# Altium schematic symbol library SamacSys.SchLib: 1281 symbols (part 10 of 13)
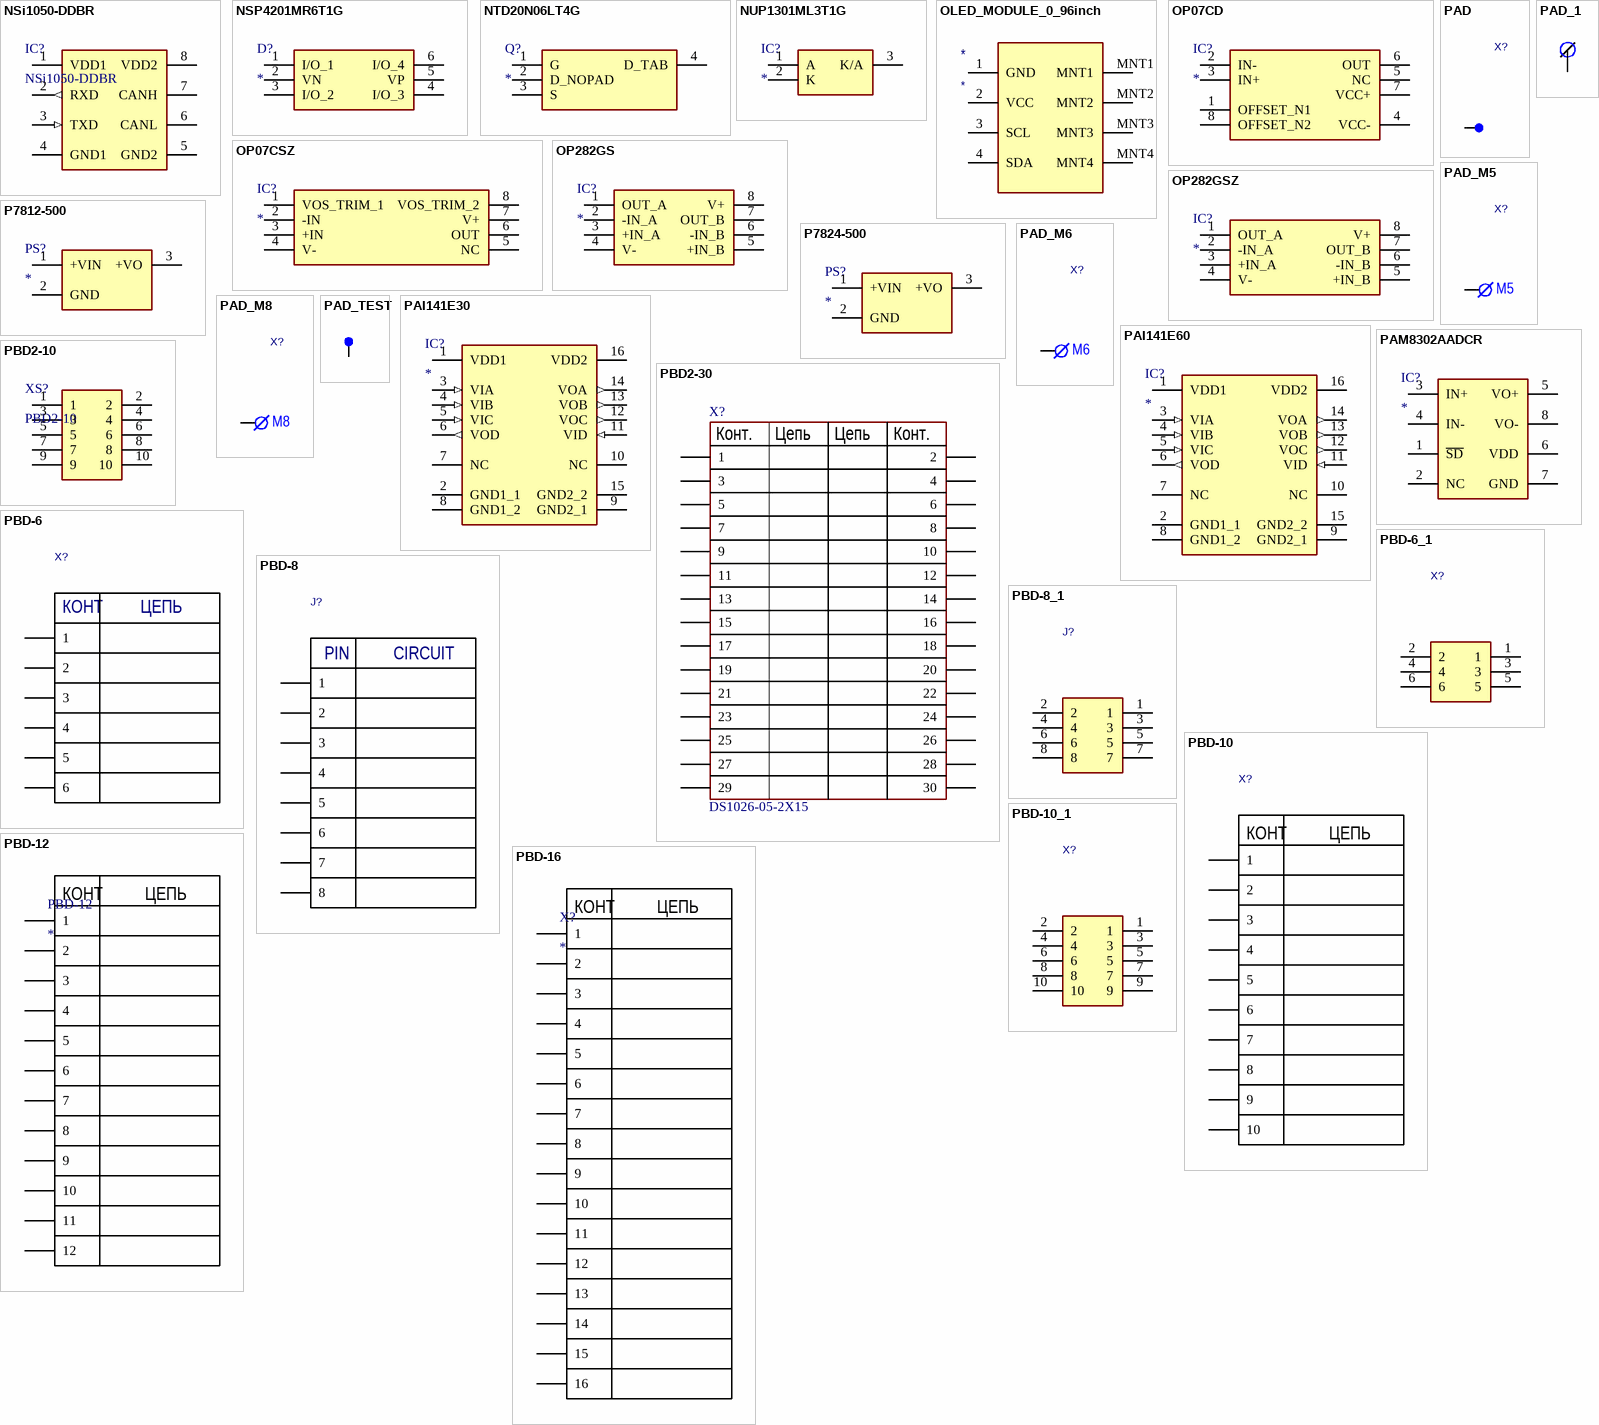
[diagram p56: symbols NSi1050-DDBR to PBD-16]

## PBD-6
designator X?  (value not drawn)
Connector; Manufacturer: Connfly; Part Number1: DS-1023 - 2x3; System: Connector; Part Number: PBD-6
footprint PBD-6
pins: 1, 2, 3, 4, 5, 6
text: КОНТ; ЦЕПЬ

## PBD-6_1
designator X?, comment PBD-6  (value not drawn)
Connector; Manufacturer: Connfly; Part Number1: DS-1023 - 2x3; System: Connector; Part Number: PBD-6
footprint PBD-6
pins: 1, 2, 3, 4, 5, 6

## PBD-8
designator J?  (value not drawn)
Connector; Manufacturer: Connfly; Part Number1: DS-1023-2x4; Part Number: PBD-8; System: Connector
footprint PBD-8 (Footprint not found)
footprint PBD-8_SIM800
pins: 1, 2, 3, 4, 5, 6, 7, 8
text: PIN; CIRCUIT

## PBD-8_1
designator J?, comment PBD-8  (value not drawn)
Connector; Manufacturer: Connfly; Part Number1: DS-1023-2x4; Part Number: PBD-8; System: Connector
footprint PBD-8
pins: 1, 2, 3, 4, 5, 6, 7, 8

## PBD-10
designator X?  (value not drawn)
Connector; Manufacturer: Connfly; Part Number1: DS-1023-2x5; Part Number: PBD-10; System: Connector
footprint PBD-10 (Footprint not found)
pins: 1, 2, 3, 4, 5, 6, 7, 8, 9, 10
text: КОНТ; ЦЕПЬ

## PBD-10_1
designator X?, comment PBD-10  (value not drawn)
Connector; Manufacturer: Connfly; Part Number1: DS-1023-2x5; Part Number: PBD-10; System: Connector
footprint PBD-10 (Footprint not found)
pins: 1, 2, 3, 4, 5, 6, 7, 8, 9, 10

## PBD-12
designator PBD-12
Connector; Manufacturer: Connfly; Part Number1: DS1023-2x6; Part Number: PBD-16; Height: 8.5mm; System: Connector
footprint PBD-12
pins: 1, 2, 3, 4, 5, 6, 7, 8, 9, 10, 11, 12
text: КОНТ; ЦЕПЬ

## PBD-16
designator X?
Connector; Manufacturer: Connfly; Part Number1: DS1023-2x8; Part Number: PBD-16; Height: 8.5mm; System: Connector
footprint RHDR16W60P254_2X8_2082X500X850P
pins: 1, 2, 3, 4, 5, 6, 7, 8, 9, 10, 11, 12, 13, 14, 15, 16
text: КОНТ; ЦЕПЬ

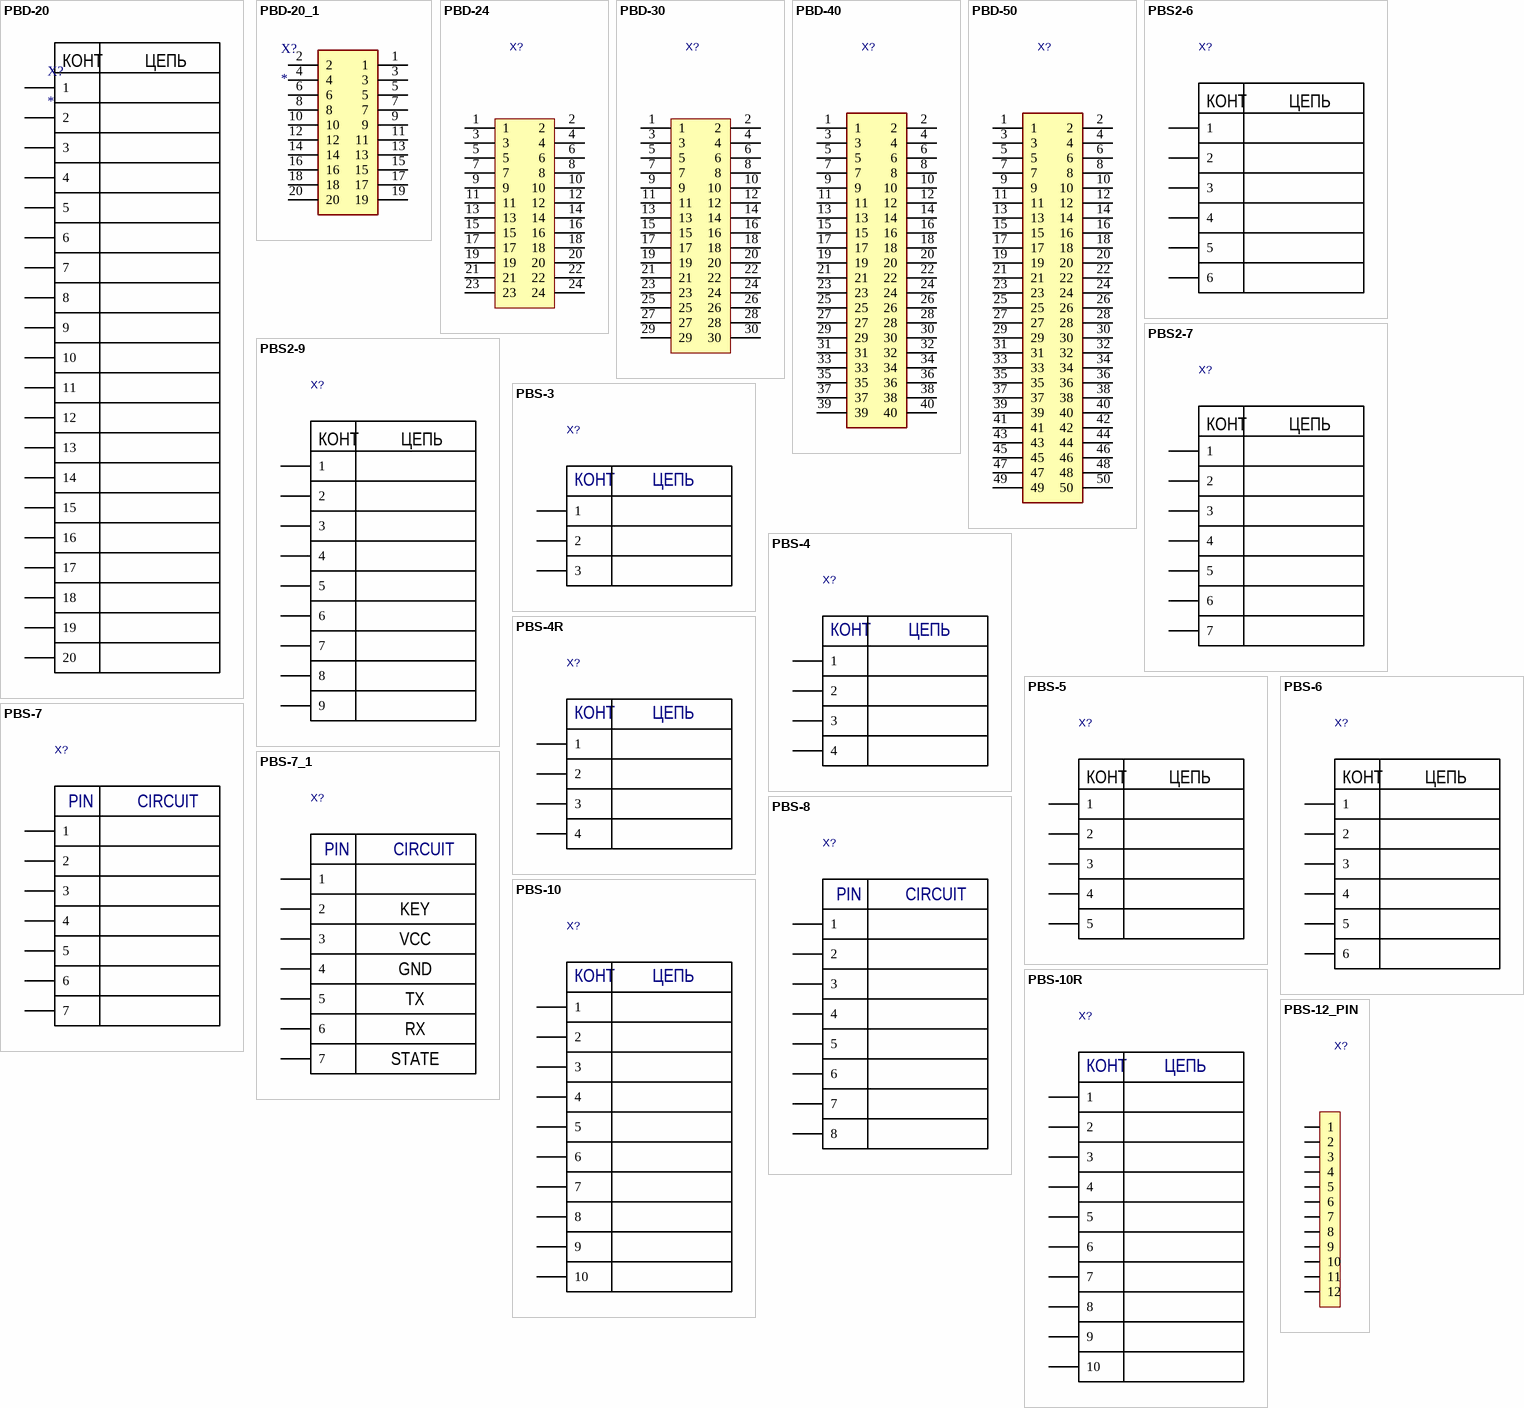
[diagram p31: symbols PBD-20 to PBS-12_PIN]

## PBD-20
designator X?
Connector; Manufacturer: Connfly; Part Number: PBD-20; Part Number1: DS1023-2*10; Height: 8.5mm; System: Connector
footprint PBD-20
pins: 1, 2, 3, 4, 5, 6, 7, 8, 9, 10, 11, 12, 13, 14, 15, 16, 17, 18, 19, 20
text: КОНТ; ЦЕПЬ

## PBD-20_1
designator X?
Connector; Manufacturer: Connfly; Part Number: PBD-20; Part Number1: DS1023-2*10; Height: 8.5mm; System: Connector
footprint PBD-20
pins: 1, 2, 3, 4, 5, 6, 7, 8, 9, 10, 11, 12, 13, 14, 15, 16, 17, 18, 19, 20

## PBD-24
designator X?  (value not drawn)
Connector; Manufacturer: Connfly; Part Number: PBD-30; Part Number1: DS-1023-2x12; System: Connector
footprint PBD-24 (Footprint not found)
pins: 1, 2, 3, 4, 5, 6, 7, 8, 9, 10, 11, 12, 13, 14, 15, 16, 17, 18, 19, 20, 21, 22, 23, 24

## PBD-30
designator X?  (value not drawn)
Connector; Manufacturer: Connfly; Part Number1: DS-1023-2x15; System: Connector; Part Number: PBD-30
footprint PBD-30
pins: 1, 2, 3, 4, 5, 6, 7, 8, 9, 10, 11, 12, 13, 14, 15, 16, 17, 18, 19, 20, 21, 22, 23, 24, 25, 26, 27, 28, 29, 30

## PBD-40
designator X?  (value not drawn)
Connector; Manufacturer: Connfly; Part Number1: DS-1023-2x20; System: Connector; Part Number: PBD-40
footprint PBD-40 (Footprint not found)
pins: 1, 2, 3, 4, 5, 6, 7, 8, 9, 10, 11, 12, 13, 14, 15, 16, 17, 18, 19, 20, 21, 22, 23, 24, 25, 26, 27, 28, 29, 30, 31, 32, 33, 34, 35, 36, 37, 38, 39, 40

## PBD-50
designator X?  (value not drawn)
Connector; Manufacturer: Connfly; Part Number: PBD-40; Part Number1: DS-1023-2x20; System: Connector
footprint PBD-50 (Footprint not found)
pins: 1, 2, 3, 4, 5, 6, 7, 8, 9, 10, 11, 12, 13, 14, 15, 16, 17, 18, 19, 20, 21, 22, 23, 24, 25, 26, 27, 28, 29, 30, 31, 32, 33, 34, 35, 36, 37, 38, 39, 40, 41, 42, 43, 44, 45, 46, 47, 48, 49, 50

## PBS2-6
designator X?  (value not drawn)
Connector, Header, Pitch 2mm, H=4.3mm; Manufacturer: Connfly; Part Number1: DS-1026-01x6; Part Number: PBS2-6; System: Connector
footprint PBS2-6
pins: 1, 2, 3, 4, 5, 6
text: КОНТ; ЦЕПЬ

## PBS2-7
designator X?  (value not drawn)
Connector, Header, Pitch 2mm, H=4.3mm; Manufacturer: Connfly; Part Number1: DS-1026-01x7; Part Number: PBS2-7; System: Connector
footprint PBS2-7 (Footprint not found)
pins: 1, 2, 3, 4, 5, 6, 7
text: КОНТ; ЦЕПЬ

## PBS2-9
designator X?  (value not drawn)
Connector, Header, Pitch 2mm, H=4.3mm; Manufacturer: Connfly; Part Number1: DS-1026-01x9; Part Number: PBS2-9; System: Connector
footprint PBS2-9 (Footprint not found)
pins: 1, 2, 3, 4, 5, 6, 7, 8, 9
text: КОНТ; ЦЕПЬ

## PBS-3
designator X?  (value not drawn)
Connector; Manufacturer: Connfly; Part Number1: DS-1023-1x3; System: Connector; Part Number: PBS-3
footprint PBS-3 (Footprint not found)
pins: 1, 2, 3
text: КОНТ; ЦЕПЬ

## PBS-4
designator X?  (value not drawn)
Connector; Manufacturer: Connfly; Part Number1: DS-1023-1x4; System: Connector; Part Number: PBS-4
footprint PBS-4
pins: 1, 2, 3, 4
text: КОНТ; ЦЕПЬ

## PBS-4R
designator X?  (value not drawn)
Connector; Manufacturer: Connfly; Part Number: PBS-4; Part Number1: DS-1023-1x4; System: Connector
footprint PBS-4R
pins: 1, 2, 3, 4
text: КОНТ; ЦЕПЬ

## PBS-5
designator X?  (value not drawn)
Connector; Manufacturer: Connfly; Part Number: PBD-5; Part Number1: DS-1023-1x5; System: Connector
footprint PBS-5
pins: 1, 2, 3, 4, 5
text: КОНТ; ЦЕПЬ

## PBS-6
designator X?  (value not drawn)
Connector; Manufacturer: Connfly; Part Number: PBD-6; Part Number1: DS-1023-1x6; System: Connector
footprint PBS-6
pins: 1, 2, 3, 4, 5, 6
text: КОНТ; ЦЕПЬ

## PBS-7
designator X?  (value not drawn)
Connector; Manufacturer: Connfly; Part Number: PBD-7; Part Number1: DS-1023-1x7; System: Connector
footprint PBS-7 (Footprint not found)
pins: 1, 2, 3, 4, 5, 6, 7
text: PIN; CIRCUIT

## PBS-7_1
designator X?, comment PBS-7  (value not drawn)
Connector; Manufacturer: Connfly; Part Number: PBS-7 + HC-06 BT Module; Part Number1: DS-1023-1x7; System: Connector
footprint PBS-7+HC-06 Module
pins: 1, 2, 3, 4, 5, 6, 7
text: PIN; CIRCUIT; KEY; VCC; GND; TX; RX; STATE

## PBS-8
designator X?  (value not drawn)
Connector; Manufacturer: Connfly; Part Number: PBD-8; Part Number1: DS-1023-1x8; System: Connector
footprint PBS-8
pins: 1, 2, 3, 4, 5, 6, 7, 8
text: PIN; CIRCUIT

## PBS-10
designator X?  (value not drawn)
Connector; Manufacturer: Connfly; Part Number1: DS-1023-1x10; System: Connector; Part Number: PBS-10
footprint PBS-10
footprint PBS-10_MPU9250
pins: 1, 2, 3, 4, 5, 6, 7, 8, 9, 10
text: КОНТ; ЦЕПЬ

## PBS-10R
designator X?  (value not drawn)
Connector; Manufacturer: Connfly; Part Number1: DS-1024-1x10R; System: Connector; Part Number: PBS-10R
footprint PBS-10R
pins: 1, 2, 3, 4, 5, 6, 7, 8, 9, 10
text: КОНТ; ЦЕПЬ

## PBS-12_PIN
designator X?, comment PBS-12  (value not drawn)
Connector; Manufacturer: Connfly; Part Number1: DS-1023-1x12; System: Connector; Part Number: PBS-12
footprint PBS-12 (Footprint not found)
pins: 1, 2, 3, 4, 5, 6, 7, 8, 9, 10, 11, 12

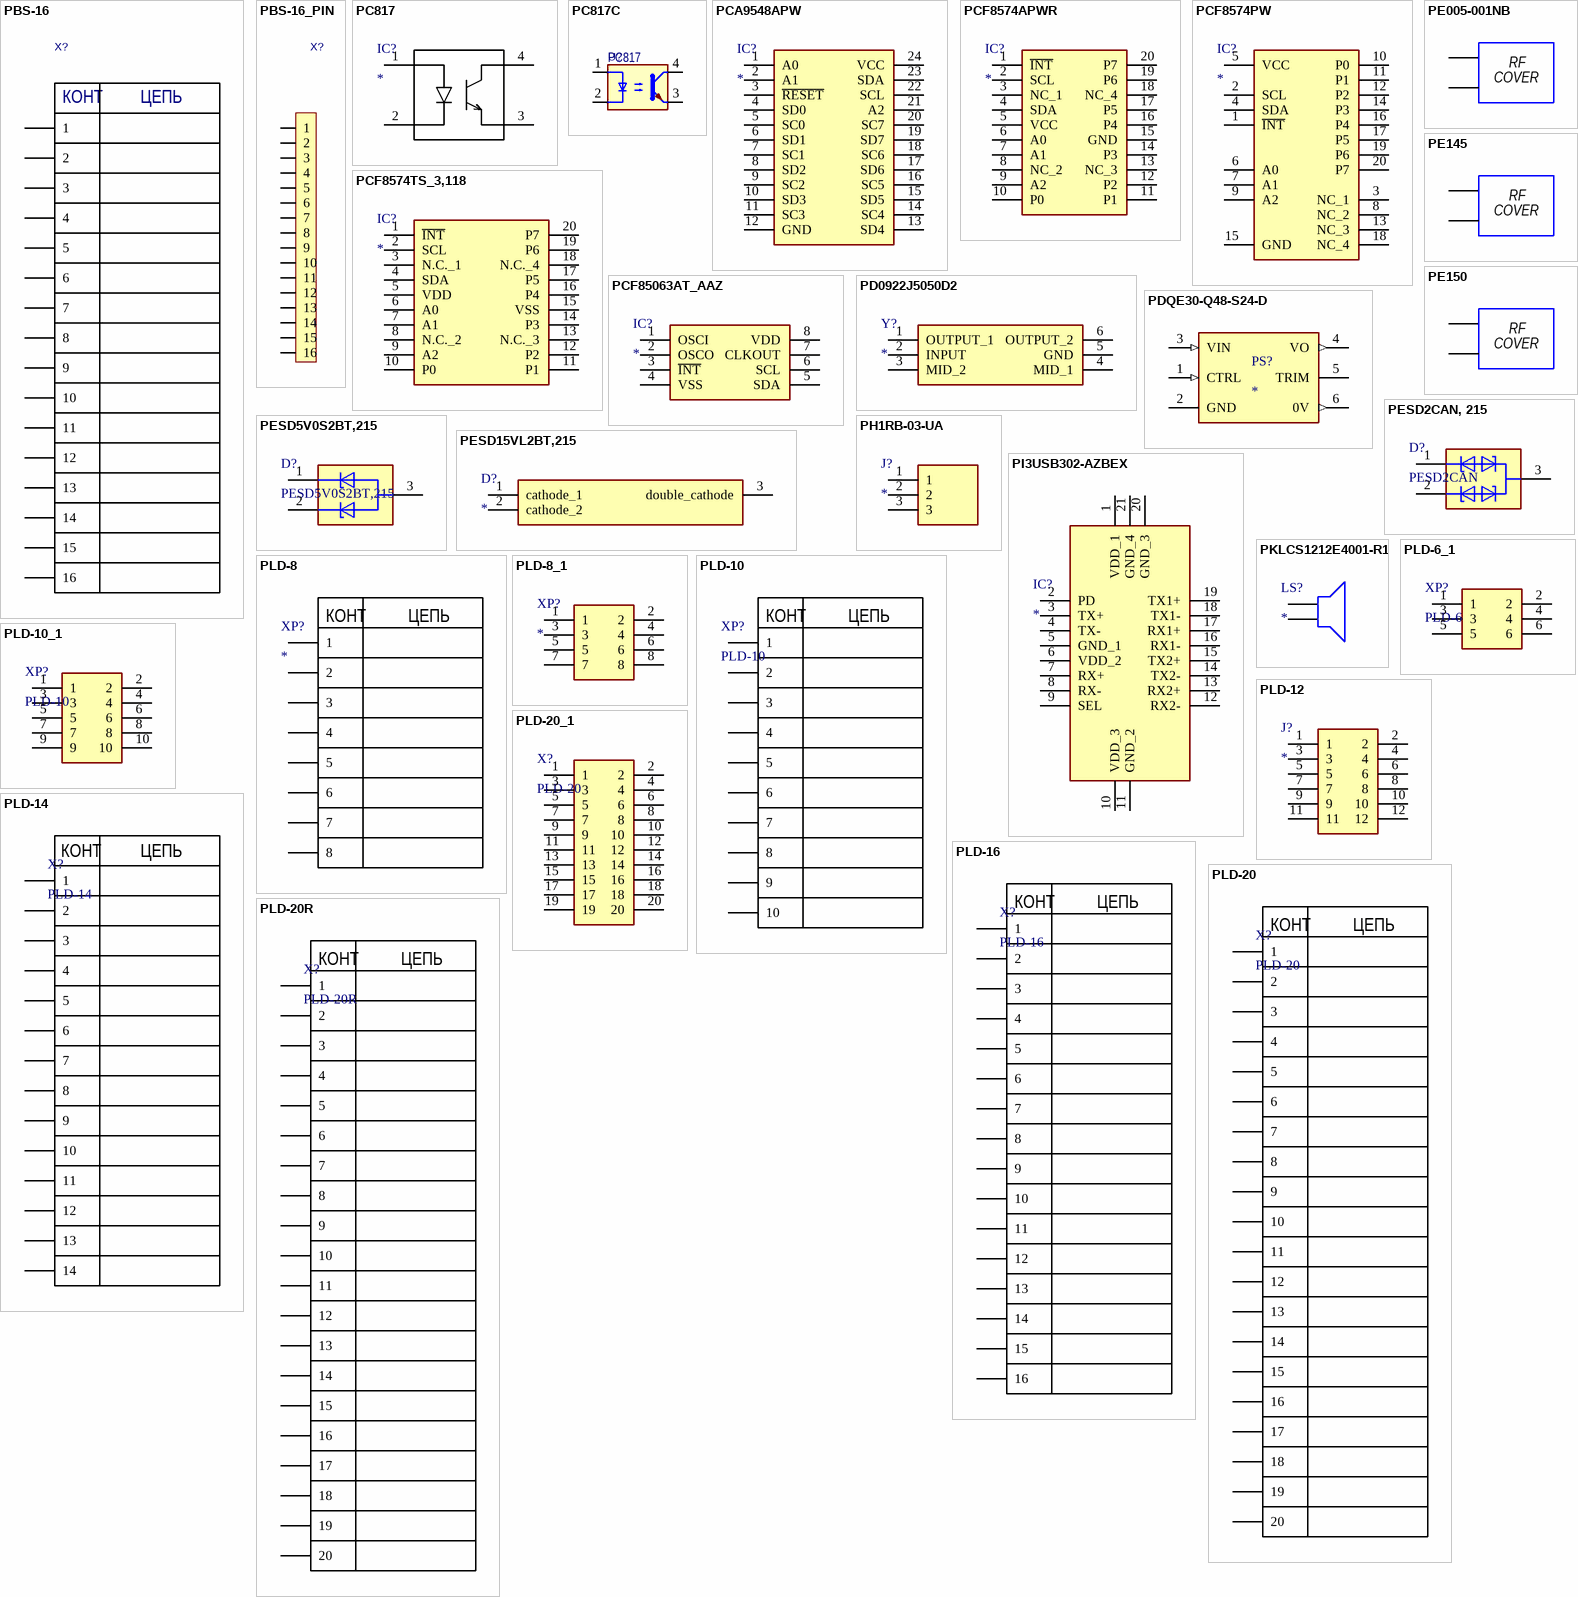
[diagram p32: symbols PBS-16 to PLD-20R]

## PBS-16
designator X?  (value not drawn)
Connector; Manufacturer: Connfly; Part Number1: DS-1023-1x16; System: Connector; Part Number: PBS-16
footprint PBS-16
pins: 1, 2, 3, 4, 5, 6, 7, 8, 9, 10, 11, 12, 13, 14, 15, 16
text: КОНТ; ЦЕПЬ

## PBS-16_PIN
designator X?, comment PBS-16  (value not drawn)
Connector; Manufacturer: Connfly; Part Number1: DS-1023-1x16; System: Connector; Part Number: PBS-16
footprint PBS-16
pins: 1, 2, 3, 4, 5, 6, 7, 8, 9, 10, 11, 12, 13, 14, 15, 16

## PC817
designator IC?
Integrated Circuit; Manufacturer_Name: Sharp Microelectronics; Manufacturer_Part_Number: PC817X2NSZ0F; Datasheet Link: https://datasheet.datasheetarchive.com/originals/distributors/Datasheets_SAMA/458e45842a103a05998fcebbd6f7366e.pdf; Height: 4mm; Mouser Part Number: N/A; Mouser Price/Stock: https://www.mouser.co.uk/ProductDetail/Sharp-Microelectronics/PC817X2NSZ0F?qs=6kT3pPPHxnU7uYWM8Yy85A%3D%3D
footprint DIP762W60P254L458H400Q4N
pins: 1 ANODE, 2 CATHODE, 3 EMITTER, 4 COLLECTOR

## PC817C
designator U?, comment value PC817  (hidden comment: PC817 (SMD-4))
OPTOISOLATOR 5KV 1CH TRANS 4-SMD
footprint SOP254P1016X460-4N
pins: 1, 2, 3, 4

## PCA9548APW
designator IC?
Integrated Circuit; Manufacturer_Name: Texas Instruments; Manufacturer_Part_Number: PCA9548APW; Datasheet Link: http://www.ti.com/lit/ds/symlink/pca9548a.pdf; Height: 1.2mm; Mouser Part Number: 595-PCA9548APW; Mouser Price/Stock: https://www.mouser.co.uk/ProductDetail/Texas-Instruments/PCA9548APW?qs=iSMark9AYDUcRAvPZkZvig%3D%3D; Arrow Part Number: PCA9548APW; Arrow Price/Stock: https://www.arrow.com/en/products/pca9548apw/texas-instruments?region=nac
footprint SOP65P640X120-24N
pins: 1 A0, 2 A1, 3 ~{RESET}, 4 SD0, 5 SC0, 6 SD1, 7 SC1, 8 SD2, 9 SC2, 10 SD3, 11 SC3, 12 GND, 13 SD4, 14 SC4, 15 SD5, 16 SC5, 17 SD6, 18 SC6, 19 SD7, 20 SC7, 21 A2, 22 SCL, 23 SDA, 24 VCC

## PCF8574APWR
designator IC?
Integrated Circuit; Manufacturer_Name: Texas Instruments; Manufacturer_Part_Number: PCF8574APWR; Datasheet Link: http://www.ti.com/lit/ds/symlink/pcf8574a.pdf; Height: 1.2mm; Mouser Part Number: 595-PCF8574APWR; Mouser Price/Stock: https://www.mouser.co.uk/ProductDetail/Texas-Instruments/PCF8574APWR?qs=bkMXpVdiF42gbWVI8U3xeA%3D%3D; Arrow Part Number: PCF8574APWR; Arrow Price/Stock: https://www.arrow.com/en/products/pcf8574apwr/texas-instruments?utm_currency=USD&region=nac
footprint SOP65P640X120-20N
pins: 1 ~{INT}, 2 SCL, 3 NC_1, 4 SDA, 5 VCC, 6 A0, 7 A1, 8 NC_2, 9 A2, 10 P0, 11 P1, 12 P2, 13 NC_3, 14 P3, 15 GND, 16 P4, 17 P5, 18 NC_4, 19 P6, 20 P7

## PCF8574PW
designator IC?
Integrated Circuit; Manufacturer_Name: Texas Instruments; Manufacturer_Part_Number: PCF8574PW; Datasheet Link: https://www.ti.com/lit/ds/symlink/pcf8574.pdf?ts=1599897350462&ref_url=https%253A%252F%252Fwww.ti.com%252Fstore%252Fti%252Fen%252Fp%252Fproduct%252F%253Fp%253DPCF8574PW%2526keyMatch%253DPCF8574PW%2526tisearch%253DSearch-EN-everything%2526usecase%253DOPN; Height: 1.2mm; Mouser Part Number: 595-PCF8574PW; Mouser Price/Stock: https://www.mouser.co.uk/ProductDetail/Texas-Instruments/PCF8574PW?qs=wgAEGBTxy7nGas5ljMOEVg%3D%3D; Arrow Part Number: PCF8574PW; Arrow Price/Stock: https://www.arrow.com/en/products/pcf8574pw/texas-instruments?region=nac
footprint SOP65P640X120-20N
pins: 1 ~{INT}, 2 SCL, 3 NC_1, 4 SDA, 5 VCC, 6 A0, 7 A1, 8 NC_2, 9 A2, 10 P0, 11 P1, 12 P2, 13 NC_3, 14 P3, 15 GND, 16 P4, 17 P5, 18 NC_4, 19 P6, 20 P7

## PCF8574TS_3,118
designator IC?
Integrated Circuit; Manufacturer_Name: NXP; Manufacturer_Part_Number: PCF8574TS/3,118; Datasheet Link: http://www.nxp.com/docs/en/data-sheet/PCF8574_PCF8574A.pdf; Height: 1.5mm; Mouser Part Number: 771-PCF8574TDK-T; Mouser Price/Stock: https://www.mouser.co.uk/ProductDetail/NXP-Semiconductors/PCF8574TS-3118?qs=LOCUfHb8d9s6DQR34Mm8kg%3D%3D; Arrow Part Number: PCF8574TS/3,118; Arrow Price/Stock: https://www.arrow.com/en/products/pcf8574ts3118/nxp-semiconductors?region=nac
footprint SOP65P640X150-20N
pins: 1 ~{INT}, 2 SCL, 3 N.C._1, 4 SDA, 5 VDD, 6 A0, 7 A1, 8 N.C._2, 9 A2, 10 P0, 11 P1, 12 P2, 13 N.C._3, 14 P3, 15 VSS, 16 P4, 17 P5, 18 N.C._4, 19 P6, 20 P7

## PCF85063AT_AAZ
designator IC?
Integrated Circuit; Manufacturer_Name: NXP; Manufacturer_Part_Number: PCF85063AT/AAZ; Datasheet Link: http://www.nxp.com/docs/en/data-sheet/PCF85063A.pdf; Height: 1.75mm; Mouser Part Number: 771-PCF85063AT/AAZ; Mouser Price/Stock: https://www.mouser.co.uk/ProductDetail/NXP-Semiconductors/PCF85063AT-AAZ?qs=sV%252BQJnSpgu9E5WpV9lmUdg%3D%3D; Arrow Part Number: PCF85063AT/AAZ; Arrow Price/Stock: https://www.arrow.com/en/products/pcf85063ataaz/nxp-semiconductors?region=nac
footprint SOIC127P600X175-8N
pins: 1 OSCI, 2 OSCO, 3 ~{INT}, 4 VSS, 5 SDA, 6 SCL, 7 CLKOUT, 8 VDD

## PD0922J5050D2
designator Y?
Crystal or Oscillator; Manufacturer_Name: XINGER; Manufacturer_Part_Number: PD0922J5050D2; Datasheet Link: https://www.kynix.com/uploadfiles/pdf8798/PD0922J5050D2.pdf; Height: 0.93mm
footprint PD0922J5050D2
pins: 1 OUTPUT_1, 2 INPUT, 3 MID_2, 4 MID_1, 5 GND, 6 OUTPUT_2

## PDQE30-Q48-S24-D
designator PS?
30 W, 4:1 Input Range, Single Regulated Output, DIP, 1500 Vdc Isolation, Dc-Dc Converter; MP: PDQE30-Q48-S24-D; MF: CUI Inc.; Value: *; Availability: Unavailable; Package: DIP-6; Check_prices: https://www.snapeda.com/parts/PDQE30-Q48-S24-D/CUI/view-part/?ref=eda; SnapEDA_Link: https://www.snapeda.com/parts/PDQE30-Q48-S24-D/CUI/view-part/?ref=snap; Price: None
footprint PDQE30
pins: 1 CTRL (in), 2 GND (power), 3 VIN (in), 4 VO (out), 5 TRIM, 6 0V (out)

## PE005-001NB
designator XT?  (value not drawn)
RF COVER, PE005-001NB; Value: *
footprint PE005-001 (Footprint not found)
pins: 1, 2
text: RF; COVER

## PE145
designator XT?, comment PE145 RF COVER  (value not drawn)
RF COVER, PE145; Value: *
footprint PE145 (Footprint not found)
pins: 1, 2
text: RF; COVER

## PE150
designator XT?, comment PE150 RF COVER  (value not drawn)
RF COVER, PE150; Value: *
footprint PE150 (Footprint not found)
pins: 1, 2
text: RF; COVER

## PESD2CAN, 215
designator D?, comment PESD2CAN
Diode ESD (Uni-directional); Manufacturer_Name: Nexperia; Manufacturer_Part_Number: PESD2CAN24T-QR; Datasheet Link: https://assets.nexperia.com/documents/data-sheet/PESD2CAN.pdf; Height: 1.1mm
footprint SOT95P230X110-3N
pins: 1 CAT_1, 2 CAT_2, 3 COM

## PESD5V0S2BT,215
designator D?
DIODE TVS 5VWM 14VC SOT23; Manufacturer_Name: Nexperia; Datasheet Link: https://assets.nexperia.com/documents/data-sheet/PESD5V0S2BT.pdf; Height: 1.1mm; Manufacturer_Part_Number: PESD5V0S2BT,215; Mouser Part Number: 771-PESD5V0S2BT-T/R; Mouser Price/Stock: https://www.mouser.co.uk/ProductDetail/Nexperia/PESD5V0S2BT215?qs=LOCUfHb8d9vg1bGYYJyeQQ%3D%3D; Arrow Part Number: PESD5V0S2BT,215; Arrow Price/Stock: https://www.arrow.com/en/products/pesd5v0s2bt215/nexperia?region=nac
footprint SOT95P230X110-3N
pins: 1 CAT_1, 2 CAT_2, 3 COM

## PESD15VL2BT,215
designator D?
Diode; Manufacturer_Name: Nexperia; Manufacturer_Part_Number: PESD15VL2BT,215; Datasheet Link: https://assets.nexperia.com/documents/data-sheet/PESDXL2BT_SER.pdf; Height: 1.1mm; Mouser Part Number: 771-PESD15VL2BT-T/R; Mouser Price/Stock: https://www.mouser.co.uk/ProductDetail/Nexperia/PESD15VL2BT215?qs=LOCUfHb8d9vyDy2ag0hbbA%3D%3D; Arrow Part Number: PESD15VL2BT,215; Arrow Price/Stock: https://www.arrow.com/en/products/pesd15vl2bt215/nexperia?region=nac
footprint SOT95P230X110-3N
pins: 1 cathode_1, 2 cathode_2, 3 double_cathode

## PH1RB-03-UA
designator J?
Connector; Manufacturer_Name: Adam Tech; Manufacturer_Part_Number: PH1RB-03-UA; Datasheet Link: https://app.adam-tech.com/products/download/data_sheet/201281/ph1rb-xx-ua-data-sheet.pdf; Height: 3.008mm; Mouser Part Number: 737-PH1RB-03-UA; Mouser Price/Stock: https://www.mouser.co.uk/ProductDetail/Adam-Tech/PH1RB-03-UA?qs=HoCaDK9Nz5dMpkzb4k6qpA%3D%3D; Arrow Part Number: PH1RB-03-UA; Arrow Price/Stock: https://www.arrow.com/en/products/ph1rb-03-ua/adam-tech?utm_currency=USD&region=nac
footprint HDRRA3W64P0X254_1X3_762X250X301P
pins: 1, 2, 3

## PI3USB302-AZBEX
designator IC?
Integrated Circuit; Manufacturer_Name: Diodes Incorporated; Manufacturer_Part_Number: PI3USB302-AZBEX; Datasheet Link: https://www.diodes.com//assets/Datasheets/PI3USB302-A.pdf; Height: 1mm; Mouser Part Number: 729-PI3USB302-AZBEX; Mouser Price/Stock: https://www.mouser.co.uk/ProductDetail/Diodes-Incorporated/PI3USB302-AZBEX?qs=RX7uCqH05oaFctr44Vdm4w%3D%3D; Arrow Part Number: PI3USB302-AZBEX; Arrow Price/Stock: https://www.arrow.com/en/products/pi3usb302-azbex/diodes-incorporated?utm_currency=USD&region=nac
footprint PI3USB302AZBEX
pins: 1 VDD_1, 2 PD, 3 TX+, 4 TX-, 5 GND_1, 6 VDD_2, 7 RX+, 8 RX-, 9 SEL, 10 VDD_3, 11 GND_2, 12 RX2-, 13 RX2+, 14 TX2-, 15 TX2+, 16 RX1-, 17 RX1+, 18 TX1-, 19 TX1+, 20 GND_3, 21 GND_4

## PKLCS1212E4001-R1
designator LS?
Loudspeaker or Buzzer; Manufacturer_Name: Murata Electronics; Manufacturer_Part_Number: PKLCS1212E4001-R1; Datasheet Link: https://componentsearchengine.com/Datasheets/2/PKLCS1212E4001-R1.pdf; Mouser Part Number: 81-PKLCS1212E4001; Mouser Price/Stock: https://www.mouser.co.uk/ProductDetail/Murata-Electronics/PKLCS1212E4001-R1?qs=obr%252BoSDNKM%252Btd7GB2KoUgw%3D%3D; Arrow Part Number: PKLCS1212E4001-R1; Arrow Price/Stock: https://www.arrow.com/en/products/pklcs1212e4001-r1/murata-manufacturing?region=europe
footprint PKLCS1212E4001
pins: 1, 2

## PLD-6_1
designator XP?, comment PLD-6
Connector
footprint PLD-6
pins: 1, 2, 3, 4, 5, 6

## PLD-8
designator XP?
Connector; Manufacturer_Name: JST (JAPAN SOLDERLESS TERMINALS); Manufacturer_Part_Number: S4B-PH-SM4-TB(LF)(SN); Datasheet Link: http://uk.rs-online.com/web/p/products/6881366; Arrow Part Number: S4B-PH-SM4-TB(LF)(SN); Arrow Price/Stock: https://www.arrow.com/en/products/s4b-ph-sm4-tb-lf-sn/jst-manufacturing; System: Connector
footprint PLD-8
pins: 1, 2, 3, 4, 5, 6, 7, 8
text: КОНТ; ЦЕПЬ

## PLD-8_1
designator XP?
Connector; Manufacturer_Name: JST (JAPAN SOLDERLESS TERMINALS); Manufacturer_Part_Number: S4B-PH-SM4-TB(LF)(SN); Datasheet Link: http://uk.rs-online.com/web/p/products/6881366; Arrow Part Number: S4B-PH-SM4-TB(LF)(SN); Arrow Price/Stock: https://www.arrow.com/en/products/s4b-ph-sm4-tb-lf-sn/jst-manufacturing; System: Connector
footprint PLD-8
pins: 1, 2, 3, 4, 5, 6, 7, 8

## PLD-10
designator XP?
Connector; Manufacturer_Name: JST (JAPAN SOLDERLESS TERMINALS); Datasheet Link: http://uk.rs-online.com/web/p/products/6881366; Manufacturer_Part_Number: PLD-10; Arrow Part Number: S4B-PH-SM4-TB(LF)(SN); Arrow Price/Stock: https://www.arrow.com/en/products/s4b-ph-sm4-tb-lf-sn/jst-manufacturing; System: Connector
footprint PLD-10
pins: 1, 2, 3, 4, 5, 6, 7, 8, 9, 10
text: КОНТ; ЦЕПЬ

## PLD-10_1
designator XP?, comment PLD-10
Connector; Manufacturer_Name: JST (JAPAN SOLDERLESS TERMINALS); Datasheet Link: http://uk.rs-online.com/web/p/products/6881366; Manufacturer_Part_Number: PLD-10; Arrow Part Number: S4B-PH-SM4-TB(LF)(SN); Arrow Price/Stock: https://www.arrow.com/en/products/s4b-ph-sm4-tb-lf-sn/jst-manufacturing; System: Connector
footprint PLD-10
pins: 1, 2, 3, 4, 5, 6, 7, 8, 9, 10

## PLD-12
designator J?
Connector; Manufacturer_Name: JST (JAPAN SOLDERLESS TERMINALS); Manufacturer_Part_Number: S4B-PH-SM4-TB(LF)(SN); Datasheet Link: http://uk.rs-online.com/web/p/products/6881366; Arrow Part Number: S4B-PH-SM4-TB(LF)(SN); Arrow Price/Stock: https://www.arrow.com/en/products/s4b-ph-sm4-tb-lf-sn/jst-manufacturing
footprint PLD-12
pins: 1, 2, 3, 4, 5, 6, 7, 8, 9, 10, 11, 12

## PLD-14
designator X?
Connector; Manufacturer: Connfly; Part Number1: DS1021-2x7; Height: 8.5mm; System: Connector; Part Number: PLD-14
footprint PLD-14 (Footprint not found)
pins: 1, 2, 3, 4, 5, 6, 7, 8, 9, 10, 11, 12, 13, 14
text: КОНТ; ЦЕПЬ

## PLD-16
designator X?
Connector; Manufacturer: Connfly; Part Number1: DS1021-2*8; Height: 8.5mm; Part Number: PLD-16; System: Connector
footprint PLD-16
pins: 1, 2, 3, 4, 5, 6, 7, 8, 9, 10, 11, 12, 13, 14, 15, 16
text: КОНТ; ЦЕПЬ

## PLD-20
designator X?
Connector; Manufacturer: Connfly; Part Number1: DS1021-2*10; Height: 8.5mm; Part Number: PLD-20; System: Connector
footprint PLD-20
pins: 1, 2, 3, 4, 5, 6, 7, 8, 9, 10, 11, 12, 13, 14, 15, 16, 17, 18, 19, 20
text: КОНТ; ЦЕПЬ

## PLD-20_1
designator X?, comment PLD-20
Connector; Manufacturer: Connfly; Part Number1: DS1021-2*10; Height: 8.5mm; Part Number: PLD-20; System: Connector
footprint PLD-20
pins: 1, 2, 3, 4, 5, 6, 7, 8, 9, 10, 11, 12, 13, 14, 15, 16, 17, 18, 19, 20

## PLD-20R
designator X?
Connector; Manufacturer: Connfly; Part Number1: DS1022-2X10; Height: 8.5mm; Part Number: PLD-20R; System: Connector
footprint PLD-20R
pins: 1, 2, 3, 4, 5, 6, 7, 8, 9, 10, 11, 12, 13, 14, 15, 16, 17, 18, 19, 20
text: КОНТ; ЦЕПЬ

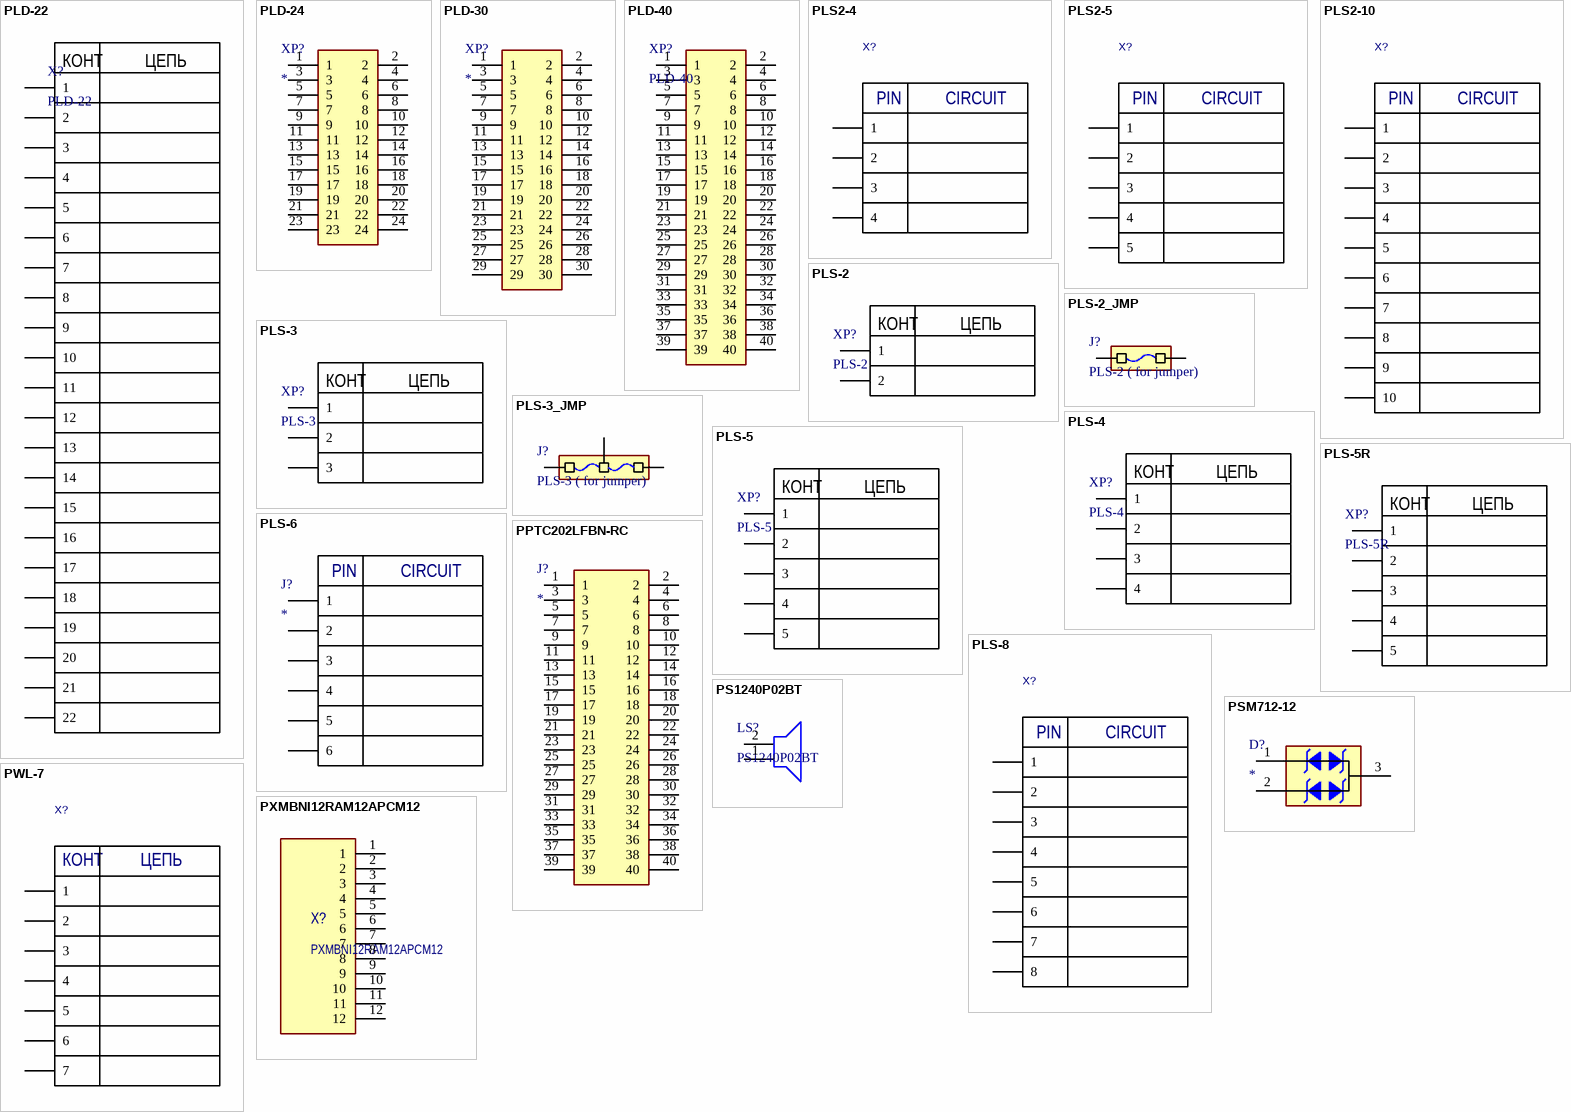
[diagram p33: symbols PLD-22 to PXMBNI12RAM12APCM12]

## PLD-22
designator X?
Connector; Manufacturer: Connfly; Part Number1: DS1021-2*11; Height: 8.5mm; Part Number: PLD-22; System: Connector
footprint PLD-22 (Footprint not found)
pins: 1, 2, 3, 4, 5, 6, 7, 8, 9, 10, 11, 12, 13, 14, 15, 16, 17, 18, 19, 20, 21, 22
text: КОНТ; ЦЕПЬ

## PLD-24
designator XP?
CONN HEADER VERT 24POS 2.54MM
footprint PLD-24
pins: 1, 2, 3, 4, 5, 6, 7, 8, 9, 10, 11, 12, 13, 14, 15, 16, 17, 18, 19, 20, 21, 22, 23, 24

## PLD-30
designator XP?
CONN HEADER VERT 30POS 2.54MM; Manufacturer_Name: JST (JAPAN SOLDERLESS TERMINALS); Manufacturer_Part_Number: S4B-PH-SM4-TB(LF)(SN); Datasheet Link: http://uk.rs-online.com/web/p/products/6881366; Arrow Part Number: S4B-PH-SM4-TB(LF)(SN); Arrow Price/Stock: https://www.arrow.com/en/products/s4b-ph-sm4-tb-lf-sn/jst-manufacturing
footprint PLD-30
pins: 1, 2, 3, 4, 5, 6, 7, 8, 9, 10, 11, 12, 13, 14, 15, 16, 17, 18, 19, 20, 21, 22, 23, 24, 25, 26, 27, 28, 29, 30

## PLD-40
designator XP?
CONN HEADER VERT 40POS 2.54MM; Manufacturer_Name: JST (JAPAN SOLDERLESS TERMINALS); Datasheet Link: http://uk.rs-online.com/web/p/products/6881366; Arrow Part Number: S4B-PH-SM4-TB(LF)(SN); Arrow Price/Stock: https://www.arrow.com/en/products/s4b-ph-sm4-tb-lf-sn/jst-manufacturing
footprint PLD-40
pins: 1, 2, 3, 4, 5, 6, 7, 8, 9, 10, 11, 12, 13, 14, 15, 16, 17, 18, 19, 20, 21, 22, 23, 24, 25, 26, 27, 28, 29, 30, 31, 32, 33, 34, 35, 36, 37, 38, 39, 40

## PLS2-4
designator X?  (value not drawn)
Connector; Manufacturer: Connfly; Part Number1: DS1025-01-1x4; Part Number: PLS2-4; System: Connector
footprint PLS2-4
pins: 1, 2, 3, 4
text: PIN; CIRCUIT

## PLS2-5
designator X?  (value not drawn)
Connector; Manufacturer: Connfly; Part Number: PLS2-4; Part Number1: DS1025-01-1x4; System: Connector
footprint PLS2-5
pins: 1, 2, 3, 4, 5
text: PIN; CIRCUIT

## PLS2-10
designator X?  (value not drawn)
Connector; Manufacturer: Connfly; Part Number1: DS1025-01-1x10; Part Number: PLS2-10; System: Connector
footprint PLS2-10
pins: 1, 2, 3, 4, 5, 6, 7, 8, 9, 10
text: PIN; CIRCUIT

## PLS-2
designator XP?
Connector; Manufacturer_Name: JST (JAPAN SOLDERLESS TERMINALS); Datasheet Link: http://uk.rs-online.com/web/p/products/6881366; Arrow Part Number: S4B-PH-SM4-TB(LF)(SN); Arrow Price/Stock: https://www.arrow.com/en/products/s4b-ph-sm4-tb-lf-sn/jst-manufacturing; System: Connector
footprint PLS-2 (Footprint not found)
pins: 1, 2
text: КОНТ; ЦЕПЬ

## PLS-2_JMP
designator J?, comment PLS-2 ( for jumper)
Jumper DS1021-1x2 + MJ-0-6; Manufacturer_Name: Connfly; Manufacturer_Part_Number: DS1021-1x2; Manufacturer_Part_Number_1: PLS-2
footprint PLS-2
pins: 1, 2

## PLS-3
designator XP?
Connector; Manufacturer_Name: JST (JAPAN SOLDERLESS TERMINALS); Datasheet Link: http://uk.rs-online.com/web/p/products/6881366; Arrow Part Number: S4B-PH-SM4-TB(LF)(SN); Arrow Price/Stock: https://www.arrow.com/en/products/s4b-ph-sm4-tb-lf-sn/jst-manufacturing; System: Connector
footprint PLS-3
pins: 1, 2, 3
text: КОНТ; ЦЕПЬ

## PLS-3_JMP
designator J?, comment PLS-3 ( for jumper)
Jumper DS1021-1x3+ MJ-0-6; Manufacturer_Name: Connfly; Manufacturer_Part_Number: DS1021-1x3; Manufacturer_Part_Number_1: PLS-3
footprint PLS-3
pins: 1, 2, 3

## PLS-4
designator XP?
Connector; Manufacturer_Name: JST (JAPAN SOLDERLESS TERMINALS); Datasheet Link: http://uk.rs-online.com/web/p/products/6881366; Arrow Part Number: S4B-PH-SM4-TB(LF)(SN); Arrow Price/Stock: https://www.arrow.com/en/products/s4b-ph-sm4-tb-lf-sn/jst-manufacturing; System: Connector
footprint PLS-4 (Footprint not found)
pins: 1, 2, 3, 4
text: КОНТ; ЦЕПЬ

## PLS-5
designator XP?
Connector; Manufacturer_Name: JST (JAPAN SOLDERLESS TERMINALS); Manufacturer_Part_Number: S4B-PH-SM4-TB(LF)(SN); Datasheet Link: http://uk.rs-online.com/web/p/products/6881366; Arrow Part Number: S4B-PH-SM4-TB(LF)(SN); Arrow Price/Stock: https://www.arrow.com/en/products/s4b-ph-sm4-tb-lf-sn/jst-manufacturing; System: Connector
footprint PLS-5
pins: 1, 2, 3, 4, 5
text: КОНТ; ЦЕПЬ

## PLS-5R
designator XP?
Connector; Manufacturer_Name: JST (JAPAN SOLDERLESS TERMINALS); Manufacturer_Part_Number: S4B-PH-SM4-TB(LF)(SN); Datasheet Link: http://uk.rs-online.com/web/p/products/6881366; Arrow Part Number: S4B-PH-SM4-TB(LF)(SN); Arrow Price/Stock: https://www.arrow.com/en/products/s4b-ph-sm4-tb-lf-sn/jst-manufacturing; System: Connector
footprint PLS-5R (Footprint not found)
pins: 1, 2, 3, 4, 5
text: КОНТ; ЦЕПЬ

## PLS-6
designator J?
Connector; Manufacturer_Name: JST (JAPAN SOLDERLESS TERMINALS); Manufacturer_Part_Number: S4B-PH-SM4-TB(LF)(SN); Datasheet Link: http://uk.rs-online.com/web/p/products/6881366; Arrow Part Number: S4B-PH-SM4-TB(LF)(SN); Arrow Price/Stock: https://www.arrow.com/en/products/s4b-ph-sm4-tb-lf-sn/jst-manufacturing
footprint PLS-6
pins: 1, 2, 3, 4, 5, 6
text: PIN; CIRCUIT

## PLS-8
designator X?  (value not drawn)
Connector; Manufacturer: Connfly; Part Number1: DS1021-1x8; Part Number: PLS-8; System: Connector
footprint PLS-8
pins: 1, 2, 3, 4, 5, 6, 7, 8
text: PIN; CIRCUIT

## PPTC202LFBN-RC
designator J?
Connector; Manufacturer_Name: Sullins; Manufacturer_Part_Number: PPTC202LFBN-RC; Datasheet Link: https://drawings-pdf.s3.amazonaws.com/10492.pdf; Height: 8.5mm
footprint SHDR40W80P254_2X20_5130X508X850P
pins: 1, 2, 3, 4, 5, 6, 7, 8, 9, 10, 11, 12, 13, 14, 15, 16, 17, 18, 19, 20, 21, 22, 23, 24, 25, 26, 27, 28, 29, 30, 31, 32, 33, 34, 35, 36, 37, 38, 39, 40

## PS1240P02BT
designator LS?
Loudspeaker or Buzzer; Manufacturer_Name: TDK; Datasheet Link: https://product.tdk.com/system/files/dam/doc/product/sw_piezo/sw_piezo/piezo-buzzer/catalog/piezoelectronic_buzzer_ps_en.pdf; Manufacturer_Part_Number: PS1240P02BT; Mouser Part Number: 810-PS1240P02BT; Mouser Price/Stock: https://www.mouser.co.uk/ProductDetail/TDK/PS1240P02BT?qs=d7g9p1yFhWaZXSY9MjKMkw%3D%3D; Arrow Part Number: PS1240P02BT; Arrow Price/Stock: https://www.arrow.com/en/products/ps1240p02bt/tdk?utm_currency=USD&region=nac
footprint PS1240P02BT
pins: 1, 2

## PSM712-12
designator D?
TVS Diode (Bi-directional); Manufacturer_Name: ProTek Devices; Manufacturer_Part_Number: PSM712-12; Datasheet Link: http://www.protekdevices.com/xyz/documents/datasheets/psm712.pdf; Height: 1.21mm
footprint PSM71212
pins: 1, 2, 3

## PWL-7
designator X?  (value not drawn)
Connector; Manufacturer: Connfly; Part Number1: DS1072-7-M; System: Connector; Part Number: PWL-7
footprint PWL-7
pins: 1, 2, 3, 4, 5, 6, 7
text: КОНТ; ЦЕПЬ

## PXMBNI12RAM12APCM12
designator X?
Bulgin M12 IP67 connector, PCB
footprint PXMBNI12RAM12APCM12 (Bulgin 12 pin IP67)
pins: 1, 2, 3, 4, 5, 6, 7, 8, 9, 10, 11, 12

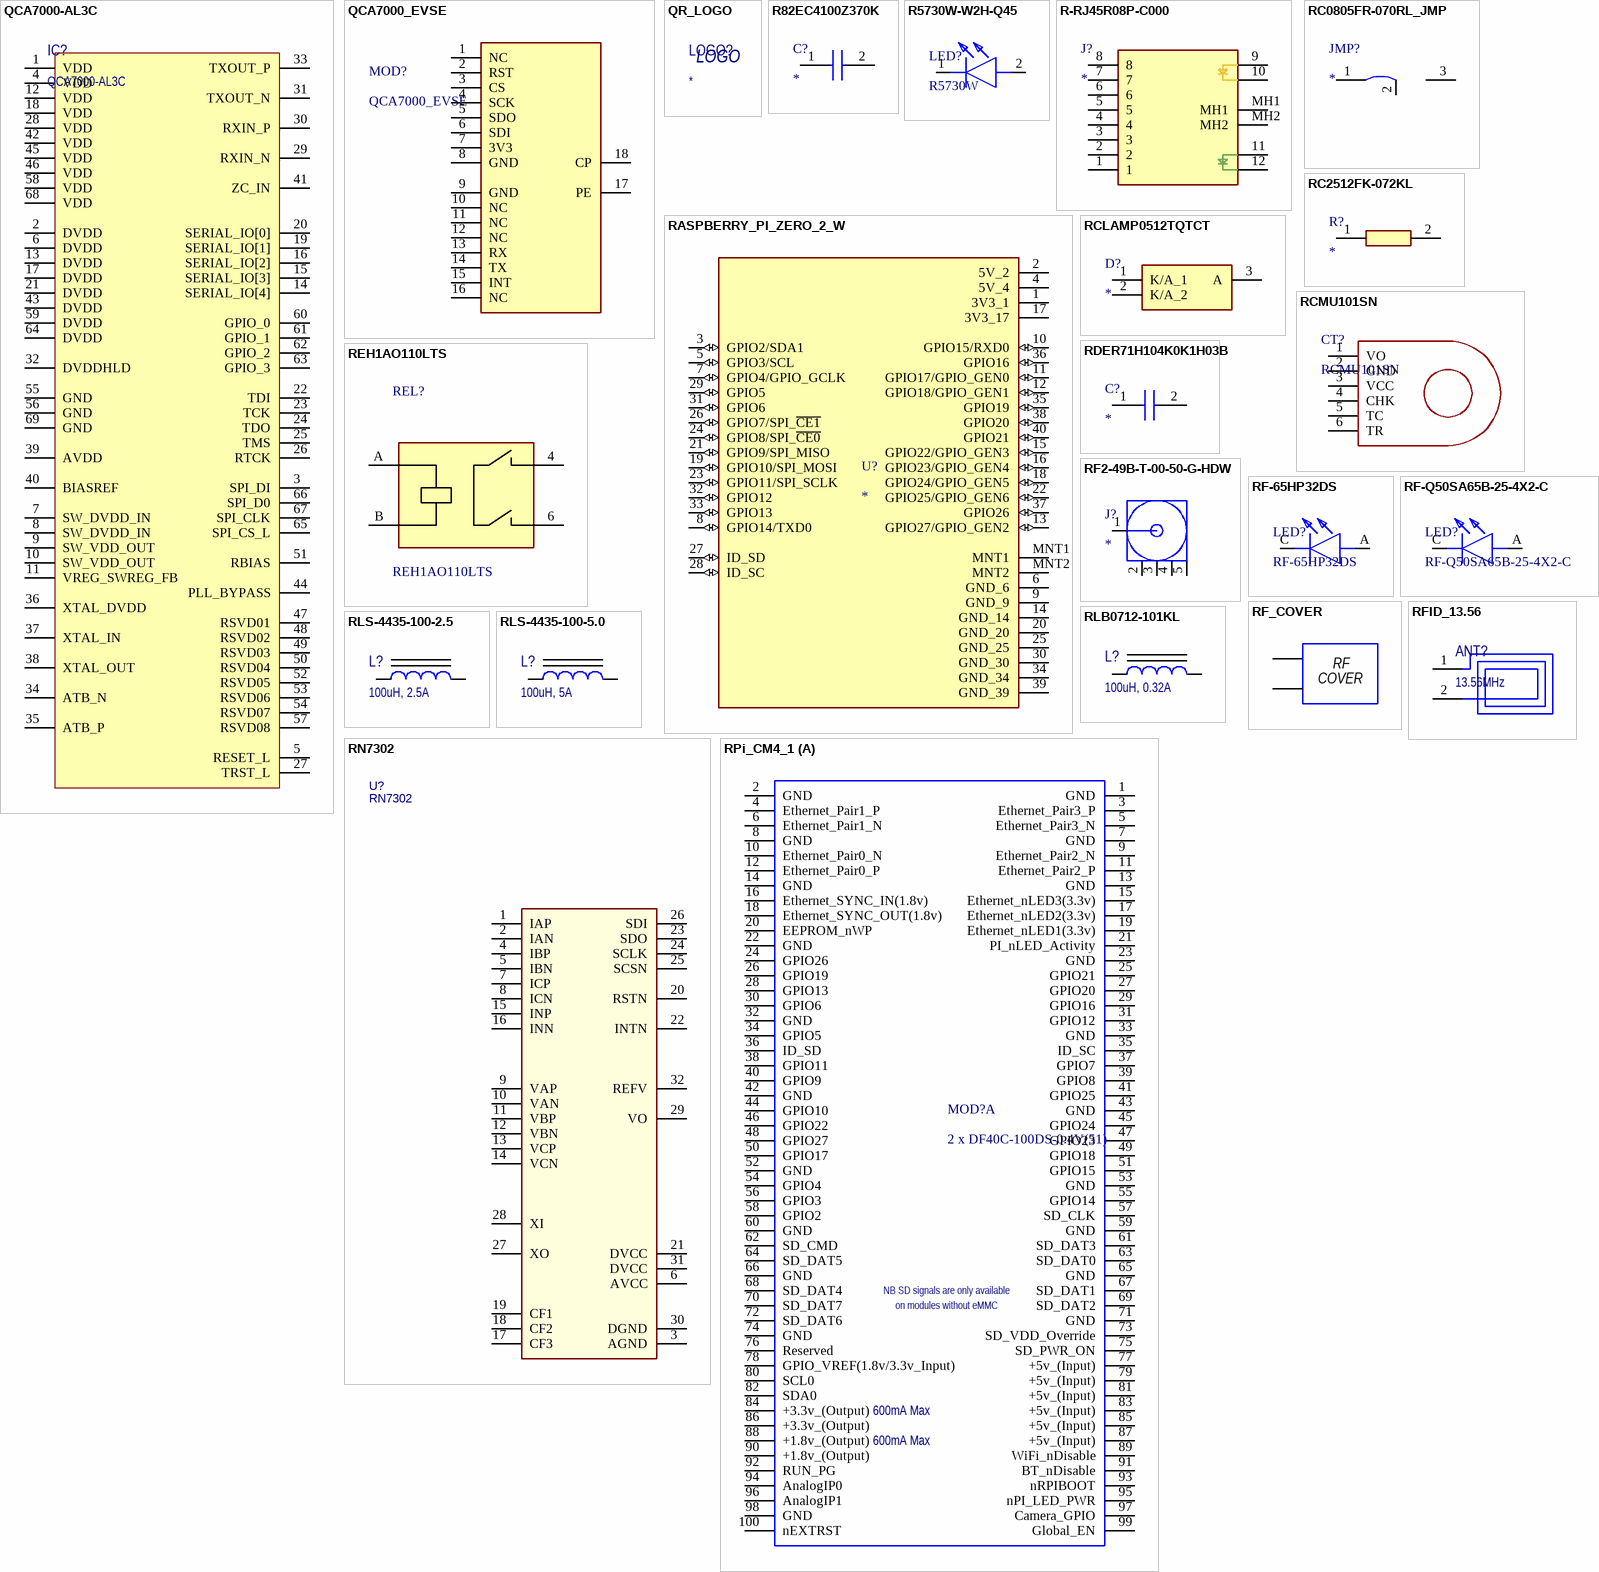
[diagram p34: symbols QCA7000-AL3C to RPi_CM4_1]

## QCA7000-AL3C
designator IC?
IC AUTO CCS QFN-68
footprint QFN40P800X800X90_HS-69N (QFN, 68-Leads, Body 8,00x8,00mm, Pitch 0,40mm, Thermal Pad 6,20x6,20mm, IPC Medium Density)
pins: 1 VDD, 2 DVDD, 3 SPI_DI, 4 VDD, 5 RESET_L, 6 DVDD, 7 SW_DVDD_IN, 8 SW_DVDD_IN, 9 SW_VDD_OUT, 10 SW_VDD_OUT, 11 VREG_SWREG_FB, 12 VDD, 13 DVDD, 14 SERIAL_IO[4], 15 SERIAL_IO[3], 16 SERIAL_IO[2], 17 DVDD, 18 VDD, 19 SERIAL_IO[1], 20 SERIAL_IO[0], 21 DVDD, 22 TDI, 23 TCK, 24 TDO, 25 TMS, 26 RTCK, 27 TRST_L, 28 VDD, 29 RXIN_N, 30 RXIN_P, 31 TXOUT_N, 32 DVDDHLD, 33 TXOUT_P, 34 ATB_N, 35 ATB_P, 36 XTAL_DVDD, 37 XTAL_IN, 38 XTAL_OUT, 39 AVDD, 40 BIASREF, 41 ZC_IN, 42 VDD, 43 DVDD, 44 PLL_BYPASS, 45 VDD, 46 VDD, 47 RSVD01, 48 RSVD02, 49 RSVD03, 50 RSVD04, 51 RBIAS, 52 RSVD05, 53 RSVD06, 54 RSVD07, 55 GND, 56 GND, 57 RSVD08, 58 VDD, 59 DVDD, 60 GPIO_0, 61 GPIO_1, 62 GPIO_2, 63 GPIO_3, 64 DVDD, 65 SPI_CS_L, 66 SPI_D0, 67 SPI_CLK, 68 VDD, 69 GND

## QCA7000_EVSE
designator MOD?
QCA7000_EVSE MODULE, 2xPBS-8 + 2xPBS-2; Manufacturer_Name: TZT; Manufacturer_Part_Number: TZT_MCP2515; Part Number: 2xPBS-8 + 2xPBS-2
footprint QCA7000_EVSE_MOD (Footprint not found)
pins: 1 NC, 2 RST, 3 CS, 4 SCK, 5 SDO, 6 SDI, 7 3V3, 8 GND, 9 GND, 10 NC, 11 NC, 12 NC, 13 RX, 14 TX, 15 INT, 16 NC, 17 PE, 18 CP

## QR_LOGO
designator LOGO?  (no BOM)
footprint QR_LOGO
footprint QR_LOGO_20
footprint QR_LOGO_15
text: LOGO

## R82EC4100Z370K
designator C?
Capacitor; Manufacturer_Name: KEMET; Manufacturer_Part_Number: R82EC4100Z370K; Datasheet Link: https://content.kemet.com/datasheets/KEM_F3101_R82.pdf; Mouser Part Number: 80-R82EC4100Z370K; Mouser Price/Stock: https://www.mouser.co.uk/ProductDetail/KEMET/R82EC4100Z370K?qs=MdJgNetHbfnzRxbVzlx9GA%3D%3D; Arrow Part Number: R82EC4100Z370K; Arrow Price/Stock: https://www.arrow.com/en/products/r82ec4100z370k/kemet-corporation?region=nac
footprint R82(7.2X6)
pins: 1, 2

## R5730W-W2H-Q45
designator LED?, comment R5730W
LED, 5730, 6500K,; Manufacturer_Name: Hongli Zhihui (HONGLITRONIC); Manufacturer_Part_Number: HL-EMC-3030D49W-2C-S1-HR3; Datasheet Link: https://4donline.ihs.com/images/VipMasterIC/IC/GHTC/GHTCS01244/GHTCS01244-1.pdf?hkey=EF798316E3902B6ED9A73243A3159BB0; Height: 0.67mm
footprint HLEMC3030D49W2CS1HR3
pins: 1 K, 2 A

## R-RJ45R08P-C000
designator J?
Connector, RJ-45; Manufacturer_Name: Shenzhen Cankemeng; Manufacturer_Part_Number: R-RJ45R08P-C000; Datasheet Link: https://datasheet.lcsc.com/szlcsc/1905231215_Shenzhen-Cankemeng-R-RJ45R08P-C000_C386757.pdf; Height: 13.4mm
footprint RRJ45R08PC000
pins: 1, 2, 3, 4, 5, 6, 7, 8, 9 CATHODE, 10 ANODE_1, 11 CATHODE_, 12 ANODE_2, MH1, MH2

## RASPBERRY_PI_ZERO_2_W
designator U?
Raspberry Pi Zero 2 W; SnapEDA_Link: https://www.snapeda.com/parts/RASPBERRY%20PI%20ZERO%202%20W/Raspberry+Pi/view-part/?ref=snap; Package: None; Value: *; MF: Raspberry Pi; MP: RASPBERRY PI ZERO 2 W; Check_prices: https://www.snapeda.com/parts/RASPBERRY%20PI%20ZERO%202%20W/Raspberry+Pi/view-part/?ref=eda
footprint MODULE_RASPBERRY_PI_ZERO_2_W
footprint DS101340SSIB1B0
footprint PLD-40
pins: 1 3V3_1 (power), 2 5V_2 (power), 3 GPIO2/SDA1 (io), 4 5V_4 (power), 5 GPIO3/SCL (io), 6 GND_6 (power), 7 GPIO4/GPIO_GCLK (io), 8 GPIO14/TXD0 (io), 9 GND_9 (power), 10 GPIO15/RXD0 (io), 11 GPIO17/GPIO_GEN0 (io), 12 GPIO18/GPIO_GEN1 (io), 13 GPIO27/GPIO_GEN2 (io), 14 GND_14 (power), 15 GPIO22/GPIO_GEN3 (io), 16 GPIO23/GPIO_GEN4 (io), 17 3V3_17 (power), 18 GPIO24/GPIO_GEN5 (io), 19 GPIO10/SPI_MOSI (io), 20 GND_20 (power), 21 GPIO9/SPI_MISO (io), 22 GPIO25/GPIO_GEN6 (io), 23 GPIO11/SPI_SCLK (io), 24 GPIO8/SPI_~{CE0} (io), 25 GND_25 (power), 26 GPIO7/SPI_~{CE1} (io), 27 ID_SD (io), 28 ID_SC (io), 29 GPIO5 (io), 30 GND_30 (power), 31 GPIO6 (io), 32 GPIO12 (io), 33 GPIO13 (io), 34 GND_34 (power), 35 GPIO19 (io), 36 GPIO16 (io), 37 GPIO26 (io), 38 GPIO20 (io), 39 GND_39 (power), 40 GPIO21 (io), MNT1 (power), MNT2 (power)

## RC0805FR-070RL_JMP
designator JMP?
Resistor, 0805, 0 Ohm, 3POS JUMPER; Part Number: RC0805FR-070RL; Name: Yageo
footprint JUMPER_3WAY_0805
pins: 1, 2 WIPER, 3

## RC2512FK-072KL
designator R?
Resistor; Manufacturer_Name: KEMET; Manufacturer_Part_Number: RC2512FK-072KL; Datasheet Link: https://www.arrow.com/en/products/rc2512fk-072kl/yageo; Height: 0.65mm; Mouser Part Number: 603-RC2512FK-072KL; Mouser Price/Stock: https://www.mouser.com/Search/Refine.aspx?Keyword=603-RC2512FK-072KL; Arrow Part Number: RC2512FK-072KL; Arrow Price/Stock: https://www.arrow.com/en/products/rc2512fk-072kl/yageo
footprint RESC6431X65N
pins: 1, 2

## RCLAMP0512TQTCT
designator D?
Diode; Manufacturer_Name: SEMTECH; Manufacturer_Part_Number: RCLAMP0512TQTCT; Datasheet Link: https://media.digikey.com/pdf/Data%20Sheets/Semtech%20PDFs/RCLAMP0512TQ_Rev6_12-17-15.pdf; Height: 0.45mm; Mouser Part Number: 947-RCLAMP0512TQTCT; Mouser Price/Stock: https://www.mouser.co.uk/ProductDetail/Semtech/RCLAMP0512TQTCT?qs=rBWM4%252BvDhIfq7vcNOg1BvQ%3D%3D; Arrow Part Number: RCLAMP0512TQTCT; Arrow Price/Stock: https://www.arrow.com/en/products/rclamp0512tqtct/semtech?utm_currency=USD&region=europe
footprint RCLAMP0512TQTCT
pins: 1 K/A_1, 2 K/A_2, 3 A

## RCMU101SN
designator CT?
Resudual Current Sensor; Height: 35; Manufacturer_Part_Number: RCMU101SN
footprint RCMU101SN
pins: 1 VO, 2 GND, 3 VCC, 4 CHK, 5 TC, 6 TR

## RDER71H104K0K1H03B
designator C?
Capacitor; Manufacturer_Name: Murata Electronics; Manufacturer_Part_Number: RDER71H104K0K1H03B; Datasheet Link: https://psearch.en.murata.com/capacitor/product/RDER71H104K0K1H03B.html; Height: 5mm; Mouser Part Number: 81-RDER71H104K0K1H3B; Mouser Price/Stock: https://www.mouser.co.uk/ProductDetail/Murata-Electronics/RDER71H104K0K1H03B?qs=hNud%2FORuBR2GLaz%2FjAabyQ%3D%3D; Arrow Part Number: RDER71H104K0K1H03B; Arrow Price/Stock: https://www.arrow.com/en/products/rder71h104k0k1h03b/murata-manufacturing?region=nac
footprint RDE5C1H330J0M1H03A
pins: 1, 2

## REH1AO110LTS
designator REL?
Power Relay 110VDC, 16A/400V, 1 Form A
footprint REH1AO
pins: 4 COM, 6 COIL_2, A COIL_1, B NC

## RF2-49B-T-00-50-G-HDW
designator J?
Connector, SMA; Manufacturer_Name: Adam Tech; Manufacturer_Part_Number: RF2-49B-T-00-50-G-HDW; Datasheet Link: https://www.digikey.com/en/products/detail/adam-tech/RF2-49B-T-00-50-G-HDW/9831420?msockid=3e3afa68a50969ca3057ef1ca4c9684b; Height: 10.958mm; Arrow Part Number: RF2-49B-T-00-50-G-HDW; Arrow Price/Stock: https://www.arrow.com/en/products/rf2-49b-t-00-50-g-hdw/adam-tech?region=nac
footprint RF249BT0050GHDW
pins: 1, 2, 3, 4, 5

## RF-65HP32DS
designator LED?
LED; Manufacturer_Name: Kingbright; Datasheet Link: https://componentsearchengine.com/Datasheets/2/KA-3528SGC.pdf; Height: 2.1mm; Manufacturer_Part_Number: RF-65HP32DS
footprint RF-65HP32DS
pins: A, C K

## RF-Q50SA65B-25-4X2-C
designator LED?
LED; Manufacturer_Name: Kingbright; Manufacturer_Part_Number: RF-65HP32DS; Datasheet Link: https://componentsearchengine.com/Datasheets/2/KA-3528SGC.pdf; Height: 2.1mm
footprint RF-Q50SA65B
pins: A, C K

## RF_COVER
designator XT?, comment Custom  (value not drawn)
RF COVER; Value: *
footprint RF COVER_4530 (RF COVER)
footprint RF COVER_5030 (RF COVER)
pins: 1, 2
text: RF; COVER

## RFID_13.56
designator ANT?, comment 13.56MHz  (no BOM)
NFC RFID Antenna 13.56MHz
footprint ANTENNA_30x15 (13.56MHz antenna 30*15mm)
pins: 1, 2

## RLB0712-101KL
designator L?, comment 100uH, 0.32A
Inductor, TH, D7*H12*P3; Manufacturer: RENCO; Manufacturer Part Number: RLS-4435-100-5.0
footprint RLB0712
pins: 1, 2

## RLS-4435-100-2.5
designator L?, comment 100uH, 2.5A
Inductor; Manufacturer: RENCO; Manufacturer Part Number: RLS-4435-100-2.5
footprint RENCO_CM3
pins: 1, 2

## RLS-4435-100-5.0
designator L?, comment 100uH, 5A
Inductor; Manufacturer: RENCO; Manufacturer Part Number: RLS-4435-100-5.0
footprint RENCO_CM5 (Footprint not found)
pins: 1, 2

## RN7302
designator U?
BOM_Manufacturer: 锐能微; spicePre: X; BOM_Manufacturer Part: RN7302; BOM_Supplier: LCSC; BOM_Supplier Part: C112450; BOM_JLCPCB Part Class: Extended Part; spiceSymbolName: RN7302
footprint QFP80P900X900X160-32N
pins: 1 IAP, 2 IAN, 3 AGND, 4 IBP, 5 IBN, 6 AVCC, 7 ICP, 8 ICN, 9 VAP, 10 VAN, 11 VBP, 12 VBN, 13 VCP, 14 VCN, 15 INP, 16 INN, 17 CF3, 18 CF2, 19 CF1, 20 RSTN, 21 DVCC, 22 INTN, 23 SDO, 24 SCLK, 25 SCSN, 26 SDI, 27 XO, 28 XI, 29 VO, 30 DGND, 31 DVCC, 32 REFV

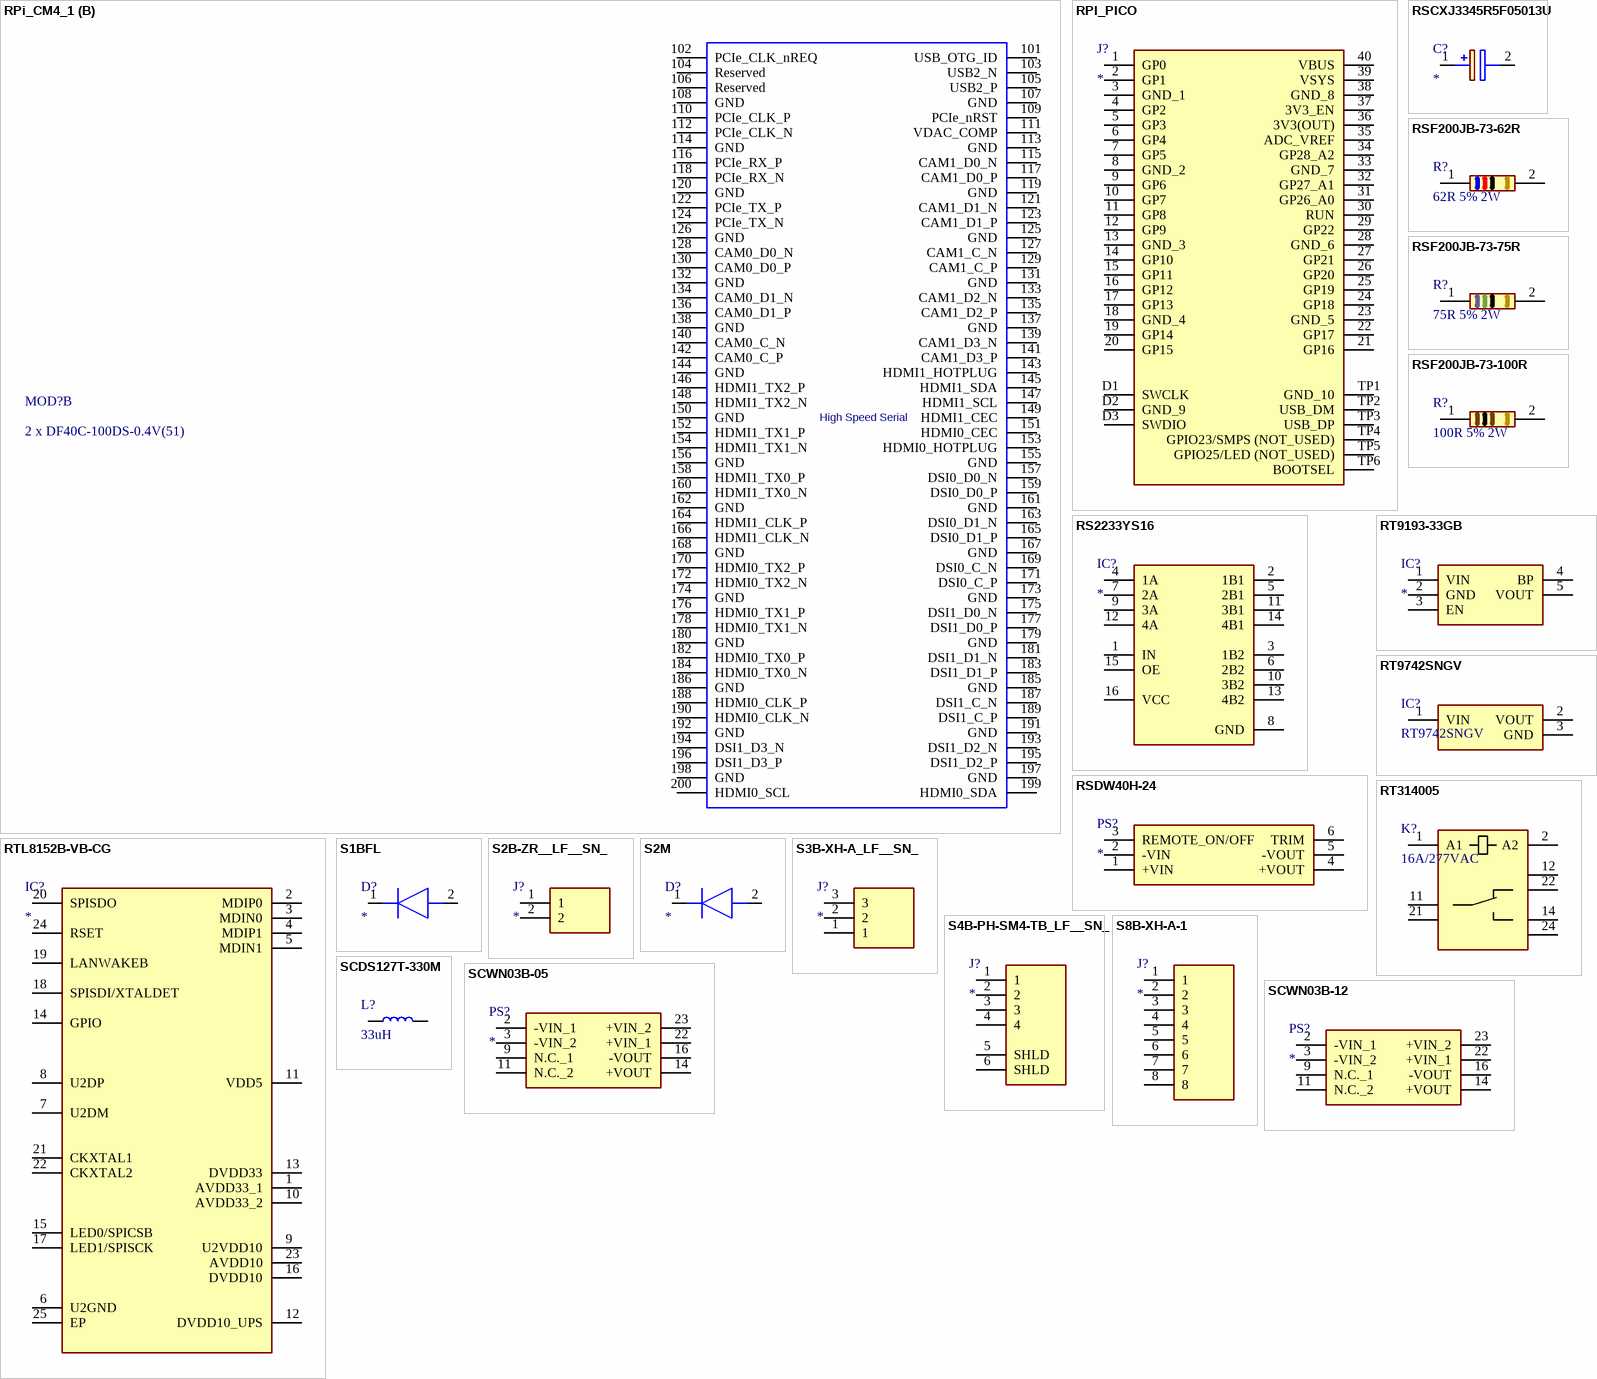
[diagram p35: symbols RPi_CM4_1 to SCWN03B-12]

## RPi_CM4_1
designator MOD?, comment 2 x DF40C-100DS-0.4V(51)
Rapsberry PI Compute Module 4 +
footprint RPI_CM4_con (only connectors)
footprint RPI_CM4_full (with CM4 3D)
footprint RPI_Time4CM4 (2pcs. DF40HC(3.0)-100DS-0.4V)
footprint RPI_CM4_STACKED (with CM4 3D)
part A pins: 1 GND, 2 GND, 3 Ethernet_Pair3_P, 4 Ethernet_Pair1_P, 5 Ethernet_Pair3_N, 6 Ethernet_Pair1_N, 7 GND, 8 GND, 9 Ethernet_Pair2_N, 10 Ethernet_Pair0_N, 11 Ethernet_Pair2_P, 12 Ethernet_Pair0_P, 13 GND, 14 GND, 15 Ethernet_nLED3(3.3v), 16 Ethernet_SYNC_IN(1.8v), 17 Ethernet_nLED2(3.3v), 18 Ethernet_SYNC_OUT(1.8v), 19 Ethernet_nLED1(3.3v), 20 EEPROM_nWP, 21 PI_nLED_Activity, 22 GND, 23 GND, 24 GPIO26, 25 GPIO21, 26 GPIO19, 27 GPIO20, 28 GPIO13, 29 GPIO16, 30 GPIO6, 31 GPIO12, 32 GND, 33 GND, 34 GPIO5, 35 ID_SC, 36 ID_SD, 37 GPIO7, 38 GPIO11, 39 GPIO8, 40 GPIO9, 41 GPIO25, 42 GND, 43 GND, 44 GPIO10, 45 GPIO24, 46 GPIO22, 47 GPIO23, 48 GPIO27, 49 GPIO18, 50 GPIO17, 51 GPIO15, 52 GND, 53 GND, 54 GPIO4, 55 GPIO14, 56 GPIO3, 57 SD_CLK, 58 GPIO2, 59 GND, 60 GND, 61 SD_DAT3, 62 SD_CMD, 63 SD_DAT0, 64 SD_DAT5, 65 GND, 66 GND, 67 SD_DAT1, 68 SD_DAT4, 69 SD_DAT2, 70 SD_DAT7, 71 GND, 72 SD_DAT6, 73 SD_VDD_Override, 74 GND, 75 SD_PWR_ON, 76 Reserved, 77 +5v_(Input), 78 GPIO_VREF(1.8v/3.3v_Input), 79 +5v_(Input), 80 SCL0, 81 +5v_(Input), 82 SDA0, 83 +5v_(Input), 84 +3.3v_(Output), 85 +5v_(Input), 86 +3.3v_(Output), 87 +5v_(Input), 88 +1.8v_(Output), 89 WiFi_nDisable, 90 +1.8v_(Output), 91 BT_nDisable, 92 RUN_PG, 93 nRPIBOOT, 94 AnalogIP0, 95 nPI_LED_PWR, 96 AnalogIP1, 97 Camera_GPIO, 98 GND, 99 Global_EN, 100 nEXTRST
part B pins: 101 USB_OTG_ID, 102 PCIe_CLK_nREQ, 103 USB2_N, 104 Reserved, 105 USB2_P, 106 Reserved, 107 GND, 108 GND, 109 PCIe_nRST, 110 PCIe_CLK_P, 111 VDAC_COMP, 112 PCIe_CLK_N, 113 GND, 114 GND, 115 CAM1_D0_N, 116 PCIe_RX_P, 117 CAM1_D0_P, 118 PCIe_RX_N, 119 GND, 120 GND, 121 CAM1_D1_N, 122 PCIe_TX_P, 123 CAM1_D1_P, 124 PCIe_TX_N, 125 GND, 126 GND, 127 CAM1_C_N, 128 CAM0_D0_N, 129 CAM1_C_P, 130 CAM0_D0_P, 131 GND, 132 GND, 133 CAM1_D2_N, 134 CAM0_D1_N, 135 CAM1_D2_P, 136 CAM0_D1_P, 137 GND, 138 GND, 139 CAM1_D3_N, 140 CAM0_C_N, 141 CAM1_D3_P, 142 CAM0_C_P, 143 HDMI1_HOTPLUG, 144 GND, 145 HDMI1_SDA, 146 HDMI1_TX2_P, 147 HDMI1_SCL, 148 HDMI1_TX2_N, 149 HDMI1_CEC, 150 GND, 151 HDMI0_CEC, 152 HDMI1_TX1_P, 153 HDMI0_HOTPLUG, 154 HDMI1_TX1_N, 155 GND, 156 GND, 157 DSI0_D0_N, 158 HDMI1_TX0_P, 159 DSI0_D0_P, 160 HDMI1_TX0_N, 161 GND, 162 GND, 163 DSI0_D1_N, 164 HDMI1_CLK_P, 165 DSI0_D1_P, 166 HDMI1_CLK_N, 167 GND, 168 GND, 169 DSI0_C_N, 170 HDMI0_TX2_P, 171 DSI0_C_P, 172 HDMI0_TX2_N, 173 GND, 174 GND, 175 DSI1_D0_N, 176 HDMI0_TX1_P, 177 DSI1_D0_P, 178 HDMI0_TX1_N, 179 GND, 180 GND, 181 DSI1_D1_N, 182 HDMI0_TX0_P, 183 DSI1_D1_P, 184 HDMI0_TX0_N, 185 GND, 186 GND, 187 DSI1_C_N, 188 HDMI0_CLK_P, 189 DSI1_C_P, 190 HDMI0_CLK_N, 191 GND, 192 GND, 193 DSI1_D2_N, 194 DSI1_D3_N, 195 DSI1_D2_P, 196 DSI1_D3_P, 197 GND, 198 GND, 199 HDMI0_SDA, 200 HDMI0_SCL
part A text: NB SD signals are only available; on modules without eMMC; 600mA Max
part B text: High Speed Serial

## RPI_PICO
designator J?
Rapsberry PI PICO; Manufacturer_Name: RASPBERRY-PI; Datasheet Link: https://datasheets.raspberrypi.org/pico/pico_datasheet.pdf; Height: 1mm; Manufacturer_Part_Number: PICO
footprint PICO
footprint PICO_CUT PIN
pins: 1 GP0, 2 GP1, 3 GND_1, 4 GP2, 5 GP3, 6 GP4, 7 GP5, 8 GND_2, 9 GP6, 10 GP7, 11 GP8, 12 GP9, 13 GND_3, 14 GP10, 15 GP11, 16 GP12, 17 GP13, 18 GND_4, 19 GP14, 20 GP15, 21 GP16, 22 GP17, 23 GND_5, 24 GP18, 25 GP19, 26 GP20, 27 GP21, 28 GND_6, 29 GP22, 30 RUN, 31 GP26_A0, 32 GP27_A1, 33 GND_7, 34 GP28_A2, 35 ADC_VREF, 36 3V3(OUT), 37 3V3_EN, 38 GND_8, 39 VSYS, 40 VBUS, D1 SWCLK, D2 GND_9, D3 SWDIO, TP1 GND_10, TP2 USB_DM, TP3 USB_DP, TP4 GPIO23/SMPS (NOT_USED), TP5 GPIO25/LED (NOT_USED), TP6 BOOTSEL

## RS2233YS16
designator IC?
4-CH SPDT ANALOG SWTCH; Manufacturer: RUNIC; Part Number: RS2233YS16; Datasheet Link: https://static.chipdip.ru/lib/991/DOC019991430.pdf; Height: 1mm
footprint SOIC127P604X185-16N
pins: 1 IN, 2 1B1, 3 1B2, 4 1A, 5 2B1, 6 2B2, 7 2A, 8 GND, 9 3A, 10 3B2, 11 3B1, 12 4A, 13 4B2, 14 4B1, 15 OE, 16 VCC

## RSCXJ3345R5F05013U
designator C?
Capacitor Polarised; Manufacturer_Name: Elna; Manufacturer_Part_Number: RSCXJ3345R5F05013U; Datasheet Link: https://www.elna.co.jp/en/capacitor/double_layer/catalog/pdf/C-CXJ_e.pdf; Height: 5.5mm; Mouser Part Number: 555-DXJ-5R5H334U; Mouser Price/Stock: https://www.mouser.co.uk/ProductDetail/Elna/RSCXJ3345R5F05013U?qs=4ASt3YYao0W6F8hUkIVoqQ%3D%3D
footprint RSCXJ3345R5F05013U
pins: 1 +, 2 -

## RSDW40H-24
designator PS?
Power Supply; Manufacturer_Name: Mean Well; Manufacturer_Part_Number: RSDW40H-24; Datasheet Link: https://www.meanwell-web.com/en-gb/dc-dc-railway-single-output-converter-input-40-rsdw40h--24; Height: 10.85mm; Mouser Part Number: 709-RSDW40H-24; Mouser Price/Stock: https://www.mouser.co.uk/ProductDetail/MEAN-WELL/RSDW40H-24?qs=7MVldsJ5Uazow7Seohj%252BaA%3D%3D; Arrow Part Number: RSDW40H-24; Arrow Price/Stock: null?region=nac
footprint RSDW40H24
pins: 1 +VIN, 2 -VIN, 3 REMOTE_ON/OFF, 4 +VOUT, 5 -VOUT, 6 TRIM

## RSF200JB-73-62R
designator R?, comment 62R 5% 2W
RES 62 OHM 5% 2W AXIAL; Manufacturer_Name: YAGEO; Manufacturer_Part_Number: RSF200JB-73-62R; Datasheet Link: https://www.mouser.com/datasheet/2/447/Yageo LR_RSF_2013-594715.pdf
footprint RSF200_20mm_800mil
footprint RSF100_12mm_600mil
footprint RSF100_12mm_700mil
pins: 1, 2

## RSF200JB-73-75R
designator R?, comment 75R 5% 2W
RES 75 OHM 5% 2W AXIAL; Manufacturer_Name: YAGEO; Manufacturer_Part_Number: RSF200JB-73-75R; Datasheet Link: https://www.mouser.com/datasheet/2/447/Yageo LR_RSF_2013-594715.pdf
footprint RSF200_20mm_800mil
footprint RSF100_12mm_600mil
footprint RSF100_12mm_700mil
pins: 1, 2

## RSF200JB-73-100R
designator R?, comment 100R 5% 2W
RES 100 OHM 5% 2W AXIAL; Manufacturer_Name: YAGEO; Manufacturer_Part_Number: RSF200JB-100-62R; Datasheet Link: https://www.mouser.com/datasheet/2/447/Yageo LR_RSF_2013-594715.pdf
footprint RSF200_20mm_800mil
footprint RSF100_12mm_600mil
footprint RSF100_12mm_700mil
pins: 1, 2

## RT9193-33GB
designator IC?
Integrated Circuit; Manufacturer_Name: RICHTEK; Manufacturer_Part_Number: RT9193-33GB; Datasheet Link: http://www.richtek.com/assets/product_file/RT9193/DS9193-17.pdf; Height: 1.295mm; Mouser Part Number: 835-RT9193-33GB; Mouser Price/Stock: https://www.mouser.co.uk/ProductDetail/Richtek/RT9193-33GB?qs=amGC7iS6iy8ybRcZ9Wn2ww%3D%3D
footprint SOT94P279X130-5N
pins: 1 VIN, 2 GND, 3 EN, 4 BP, 5 VOUT

## RT9742SNGV
designator IC?
IC POWER SWCH 0.5A; Manufacturer_Name: RICHTEK; Datasheet Link: https://datasheet.lcsc.com/szlcsc/Richtek-Tech-RT9742ANGJ5F_C147955.pdf; Height: 1.295mm; Manufacturer_Part_Number: RT9742SNGV; Mouser Part Number: 835-RT9742SNGV; Mouser Price/Stock: https://www.mouser.co.uk/ProductDetail/Richtek/RT9742SNGV?qs=amGC7iS6iy9IuhGfX55LJA%3D%3D
footprint SOT95P279X130-3N
pins: 1 VIN, 2 VOUT, 3 GND

## RT314005
designator K?, comment 16A/277VAC
Relay, SPDT (1 Form C), 5VDC, 16A/277VAC; Manufacturer_Name: TE Connectivity; Manufacturer_Part_Number: RT314005; Datasheet Link: https://datasheet.datasheetarchive.com/originals/distributors/Datasheets_SAMA/d394eea7eb6e26a1d22fcd5b17749695.pdf; Mouser Part Number: 655-RT314005; Mouser Price/Stock: https://www.mouser.co.uk/ProductDetail/TE-Connectivity-PB/RT314005?qs=J%2FBqzmJdYmtcmp2%2FFwea8A%3D%3D; Arrow Part Number: RT314005; Arrow Price/Stock: https://www.arrow.com/en/products/rt314005/te-connectivity
footprint RT314005_2
pins: 1 A1, 2 A2, 11 1_COM, 12 1_NC, 14 1_NO, 21 2_COM, 22 2_NC, 24 2_NO

## RTL8152B-VB-CG
designator IC?
Integrated Circuit; Manufacturer_Name: Realtek; Manufacturer_Part_Number: RTL8152B-VB-CG; Datasheet Link: https://datasheet.lcsc.com/szlcsc/Realtek-Semicon-RTL8152B-VB-CG_C50656.pdf; Height: 0.9mm
footprint QFN50P400X400X90-25N
pins: 1 AVDD33_1, 2 MDIP0, 3 MDIN0, 4 MDIP1, 5 MDIN1, 6 U2GND, 7 U2DM, 8 U2DP, 9 U2VDD10, 10 AVDD33_2, 11 VDD5, 12 DVDD10_UPS, 13 DVDD33, 14 GPIO, 15 LED0/SPICSB, 16 DVDD10, 17 LED1/SPISCK, 18 SPISDI/XTALDET, 19 LANWAKEB, 20 SPISDO, 21 CKXTAL1, 22 CKXTAL2, 23 AVDD10, 24 RSET, 25 EP

## S1BFL
designator D?
Diode; Manufacturer_Name: onsemi; Manufacturer_Part_Number: S1BFL; Datasheet Link: https://www.onsemi.com/pub/Collateral/S1MFL-D.PDF; Height: 1.08mm; Mouser Part Number: 512-S1BFL; Mouser Price/Stock: https://www.mouser.co.uk/ProductDetail/onsemi-Fairchild/S1BFL?qs=tqW9UTzndZx6%252BbWnP4zYFQ%3D%3D; Arrow Part Number: S1BFL; Arrow Price/Stock: https://www.arrow.com/en/products/s1bfl/on-semiconductor?utm_currency=USD&region=nac
footprint SODFL3617X108N (Footprint not found)
pins: 1 K, 2 A

## S2B-ZR__LF__SN_
designator J?
Connector; Manufacturer_Name: JST (JAPAN SOLDERLESS TERMINALS); Manufacturer_Part_Number: S2B-ZR (LF)(SN); Datasheet Link: http://uk.rs-online.com/web/p/products/7620765; Height: 3.7mm
footprint SHDRRA2W50P0X150_1X2_450X600X370P
pins: 1, 2

## S2M
designator D?
Diode; Manufacturer_Name: onsemi; Manufacturer_Part_Number: S2M; Datasheet Link: https://www.onsemi.com/pub/Collateral/S2M-D.pdf; Height: 2.65mm; Mouser Part Number: 512-S2M; Mouser Price/Stock: https://www.mouser.co.uk/ProductDetail/onsemi-Fairchild/S2M?qs=a0wxjULRyoFPR8XEAEgF8g%3D%3D; Arrow Part Number: S2M; Arrow Price/Stock: https://www.arrow.com/en/products/s2m/on-semiconductor?region=nac
footprint DIOM5336X265N
pins: 1 K, 2 A

## S3B-XH-A_LF__SN_
designator J?
Connector; Manufacturer_Name: JST (JAPAN SOLDERLESS TERMINALS); Manufacturer_Part_Number: S3B-XH-A(LF)(SN); Datasheet Link: https://datasheet.lcsc.com/szlcsc/JST-Sales-America-XHsocket-1-3P-Curved-needle-pitch2-5mm_C157928.pdf; Height: 6.1mm; Arrow Part Number: S3B-XH-A(LF)(SN); Arrow Price/Stock: https://www.arrow.com/en/products/s3b-xh-a-lf-sn/jst-manufacturing?region=europe
footprint S3BXHALFSN
pins: 1, 2, 3

## S4B-PH-SM4-TB_LF__SN_
designator J?
Connector; Manufacturer_Name: JST (JAPAN SOLDERLESS TERMINALS); Manufacturer_Part_Number: S4B-PH-SM4-TB(LF)(SN); Datasheet Link: http://uk.rs-online.com/web/p/products/6881366; Arrow Part Number: S4B-PH-SM4-TB(LF)(SN); Arrow Price/Stock: https://www.arrow.com/en/products/s4b-ph-sm4-tb-lf-sn/jst-manufacturing
footprint S4B-PH-SM4-TB
pins: 1, 2, 3, 4, 5 SHLD, 6 SHLD

## S8B-XH-A-1
designator J?
Connector; Manufacturer_Name: JST (JAPAN SOLDERLESS TERMINALS); Manufacturer_Part_Number: S8B-XH-A-1(LF)(SN); Datasheet Link: http://www.jst-mfg.com/product/pdf/eng/eXH.pdf; Height: 6.1mm; Mouser Part Number: 306-S8BXHA1LFSN; Mouser Price/Stock: https://www.mouser.co.uk/ProductDetail/JST-Commercial/S8B-XH-A-1LFSN?qs=QpmGXVUTftFKLlmLzIYjBQ%3D%3D; Arrow Part Number: S8B-XH-A-1(LF)(SN); Arrow Price/Stock: https://www.arrow.com/en/products/s8b-xh-a-1-lf-sn/jst-manufacturing?region=europe
footprint S8BXHA1LFSN (Footprint not found)
pins: 1, 2, 3, 4, 5, 6, 7, 8

## SCDS127T-330M
designator L?, comment 33uH
SMT Inductor; Rated Current: 3A; Value: 33uH
footprint SCDS127T
pins: 1, 2

## SCWN03B-05
designator PS?
Power Supply; Manufacturer_Name: Mean Well; Manufacturer_Part_Number: SCWN03B-05; Datasheet Link: https://www.meanwell.com/Upload/PDF/SCWN03/SCWN03,DCWN03-SPEC.PDF; Height: 10.7mm; Mouser Part Number: 709-SCWN03B-05; Mouser Price/Stock: https://www.mouser.co.uk/ProductDetail/MEAN-WELL/SCWN03B-05?qs=5aG0NVq1C4wXjo7bZhDzjQ%3D%3D; Arrow Part Number: SCWN03B-05; Arrow Price/Stock: null?region=nac
footprint SCWN03B05
pins: 2 -VIN_1, 3 -VIN_2, 9 N.C._1, 11 N.C._2, 14 +VOUT, 16 -VOUT, 22 +VIN_1, 23 +VIN_2

## SCWN03B-12
designator PS?
Power Supply; Manufacturer_Name: Mean Well; Manufacturer_Part_Number: SCWN03B-12; Datasheet Link: https://www.meanwellusa.com/upload/pdf/SCWN03/SCWN03,DCWN03-spec.pdf; Height: 10.7mm; Mouser Part Number: 709-SCWN03B-12; Mouser Price/Stock: https://www.mouser.co.uk/ProductDetail/MEAN-WELL/SCWN03B-12?qs=5aG0NVq1C4xHYEqRKrsjkw%3D%3D; Arrow Part Number: SCWN03B-12; Arrow Price/Stock: https://www.arrow.com/en/products/scwn03b-12/mean-well-enterprises?utm_currency=USD&region=nac
footprint SCWN03B12
pins: 2 -VIN_1, 3 -VIN_2, 9 N.C._1, 11 N.C._2, 14 +VOUT, 16 -VOUT, 22 +VIN_1, 23 +VIN_2

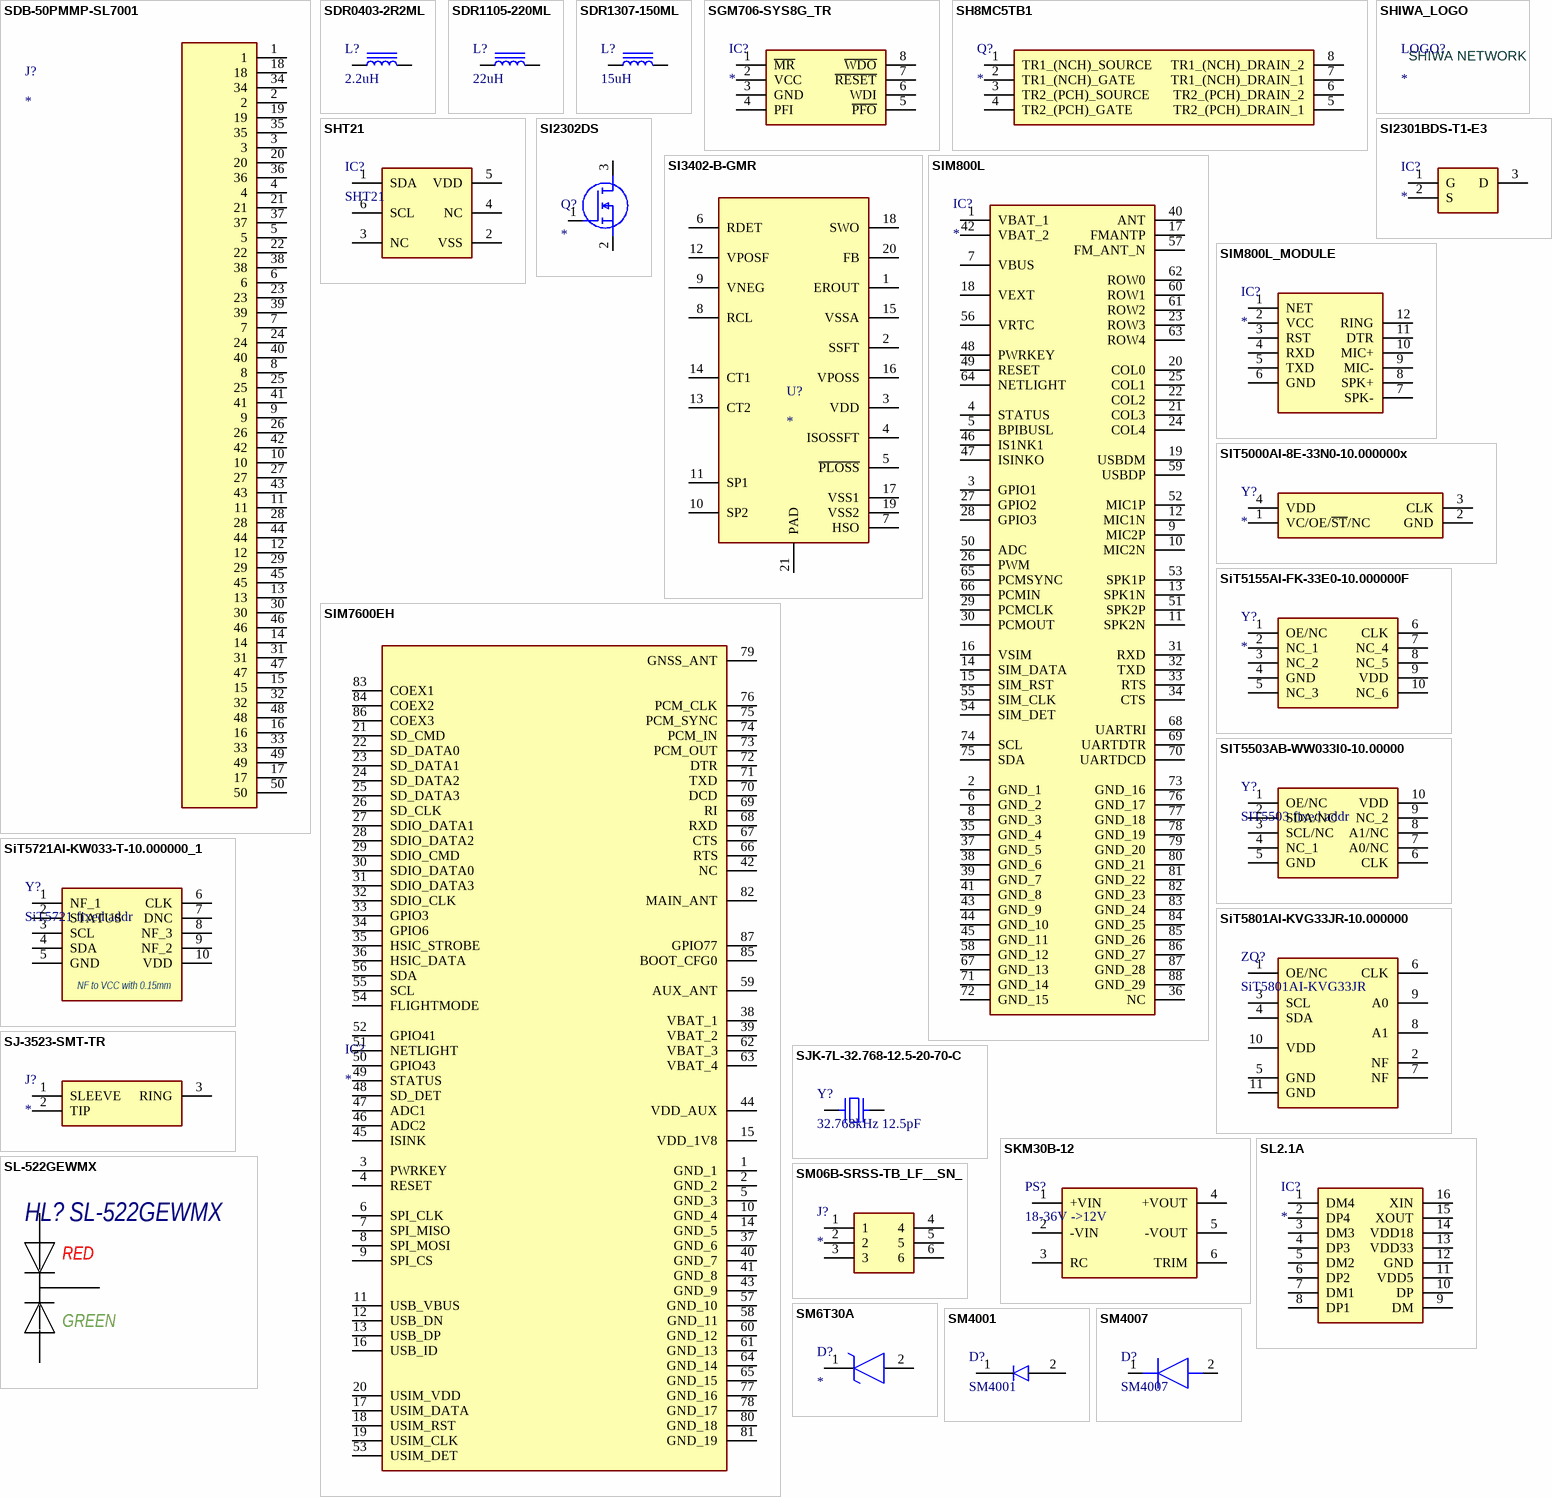
[diagram p36: symbols SDB-50PMMP-SL7001 to SM4007]

## SDB-50PMMP-SL7001
designator J?
Connector; Manufacturer_Name: Amphenol; Manufacturer_Part_Number: SDB-50PMMP-SL7001; Datasheet Link: http://www.amphenolltw.com/2012download/2D%20PDF/06_D-SUB%20Connectors/SDB-50PMMP-SL7001.pdf; Mouser Part Number: 523-SDB50PMMPSL7001; Mouser Price/Stock: https://www.mouser.co.uk/ProductDetail/Amphenol-LTW/SDB-50PMMP-SL7001?qs=Wmhir8UuqEk0U9TObiRlQA%3D%3D
footprint SDB50PMMPSL7001
pins: 1, 2, 3, 4, 5, 6, 7, 8, 9, 10, 11, 12, 13, 14, 15, 16, 17, 18, 19, 20, 21, 22, 23, 24, 25, 26, 27, 28, 29, 30, 31, 32, 33, 34, 35, 36, 37, 38, 39, 40, 41, 42, 43, 44, 45, 46, 47, 48, 49, 50

## SDR0403-2R2ML
designator L?, comment 2.2uH
SMT Inductor; Manufacturer: Bourns; Current: 2.6A; Tolerance: 20%; Value: 2.2uH
footprint SDR0403
pins: 1, 2

## SDR1105-220ML
designator L?, comment 22uH
SMT Inductor; Manufacturer: Bourns; Current: 3A; Tolerance: 20%; Value: 22uH
footprint SDR1105
pins: 1, 2

## SDR1307-150ML
designator L?, comment 15uH
SMT Inductor; Value: 15uH
footprint SDR1307-220ML
pins: 1, 2

## SGM706-SYS8G_TR
designator IC?
Integrated Circuit; Manufacturer_Name: SGMICRO; Manufacturer_Part_Number: SGM706-SYS8G/TR; Datasheet Link: https://datasheet.lcsc.com/lcsc/1810231325_SGMICRO-SGM706-SYS8G-TR_C80062.pdf; Height: 1.75mm
footprint SOIC127P600X175-8N
pins: 1 ~{MR}, 2 VCC, 3 GND, 4 PFI, 5 ~{PFO}, 6 WDI, 7 ~{RESET}, 8 ~{WDO}

## SH8MC5TB1
designator Q?
MOSFET (N-Channel); Manufacturer_Name: ROHM Semiconductor; Manufacturer_Part_Number: SH8MC5TB1; Datasheet Link: https://fscdn.rohm.com/en/products/databook/datasheet/discrete/transistor/mosfet/sh8mc5tb1-e.pdf; Height: 1.75mm; Mouser Part Number: 755-SH8MC5TB1; Mouser Price/Stock: https://www.mouser.co.uk/ProductDetail/ROHM-Semiconductor/SH8MC5TB1?qs=QNEnbhJQKvamigFoyVNsNg%3D%3D
footprint SOIC127P600X175-8N
pins: 1 TR1_(NCH)_SOURCE, 2 TR1_(NCH)_GATE, 3 TR2_(PCH)_SOURCE, 4 TR2_(PCH)_GATE, 5 TR2_(PCH)_DRAIN_1, 6 TR2_(PCH)_DRAIN_2, 7 TR1_(NCH)_DRAIN_1, 8 TR1_(NCH)_DRAIN_2

## SHIWA_LOGO
designator LOGO?  (graphical)
SHIWA NETWORK Logo
footprint SHIWA_LOGO_SOLID_15
text: SHIWA NETWORK

## SHT21
designator IC?
Temerature sensor, I2C; Manufacturer_Name: Sensirion; Datasheet Link: https://static.chipdip.ru/lib/891/DOC011891260.pdf; Height: 1.1mm; Manufacturer_Part_Number: SHT21
footprint DFN-6_3x3
pins: 1 SDA, 2 VSS, 3 NC, 4 NC, 5 VDD, 6 SCL

## SI2301BDS-T1-E3
designator IC?
Integrated Circuit; Manufacturer_Name: Vishay; Manufacturer_Part_Number: SI2301BDS-T1-E3; Datasheet Link: http://www.vishay.com/docs/72066/si2301bds.pdf; Height: 1.12mm; Mouser Part Number: 781-SI2301BDS-E3; Mouser Price/Stock: https://www.mouser.co.uk/ProductDetail/Vishay-Semiconductors/SI2301BDS-T1-E3?qs=jcx%252B0HVgj2bcZDTG4vN6Zg%3D%3D; Arrow Part Number: SI2301BDS-T1-E3; Arrow Price/Stock: https://www.arrow.com/en/products/si2301bds-t1-e3/vishay?region=nac
footprint SOT95P237X112-3N
pins: 1 G, 2 S, 3 D

## SI2302DS
designator Q?
MOSFET (N-Channel); Manufacturer_Name: Nexperia; Manufacturer_Part_Number: SI2302DS; Datasheet Link: https://assets.nexperia.com/documents/data-sheet/SI2302DS.pdf; Height: 1.1mm; Mouser Part Number: N/A; Mouser Price/Stock: https://www.mouser.com/Search/Refine.aspx?Keyword=N%2FA
footprint SOT95P230X110-3N
pins: 1 G, 2 S, 3 D

## SI3402-B-GMR
designator U?
Integrated Circuit; Manufacturer_Name: Silicon Labs; Manufacturer_Part_Number: SI3402-B-GMR; Datasheet Link: https://www.silabs.com/documents/public/data-sheets/si3404-datasheet.pdf; Height: 0.9mm; Mouser Part Number: 634-SI3402-B-GMR; Mouser Price/Stock: https://www.mouser.co.uk/ProductDetail/Silicon-Labs/SI3402-B-GMR?qs=Z7P4xsdcg2K5bfc7FcxMNA%3D%3D; Arrow Part Number: SI3402-B-GMR; Arrow Price/Stock: https://www.arrow.com/en/products/si3402-b-gmr/silicon-labs
footprint QFN80P500X500X90-21N-D
pins: 1 EROUT, 2 SSFT, 3 VDD, 4 ISOSSFT, 5 ~{PLOSS}, 6 RDET, 7 HSO, 8 RCL, 9 VNEG, 10 SP2, 11 SP1, 12 VPOSF, 13 CT2, 14 CT1, 15 VSSA, 16 VPOSS, 17 VSS1, 18 SWO, 19 VSS2, 20 FB, 21 PAD